# Altium schematic symbol library 2020-09-26_17-27-19.SchLib: 50 symbols
Pins are listed as number, name and electrical type; pins without a type are passive.

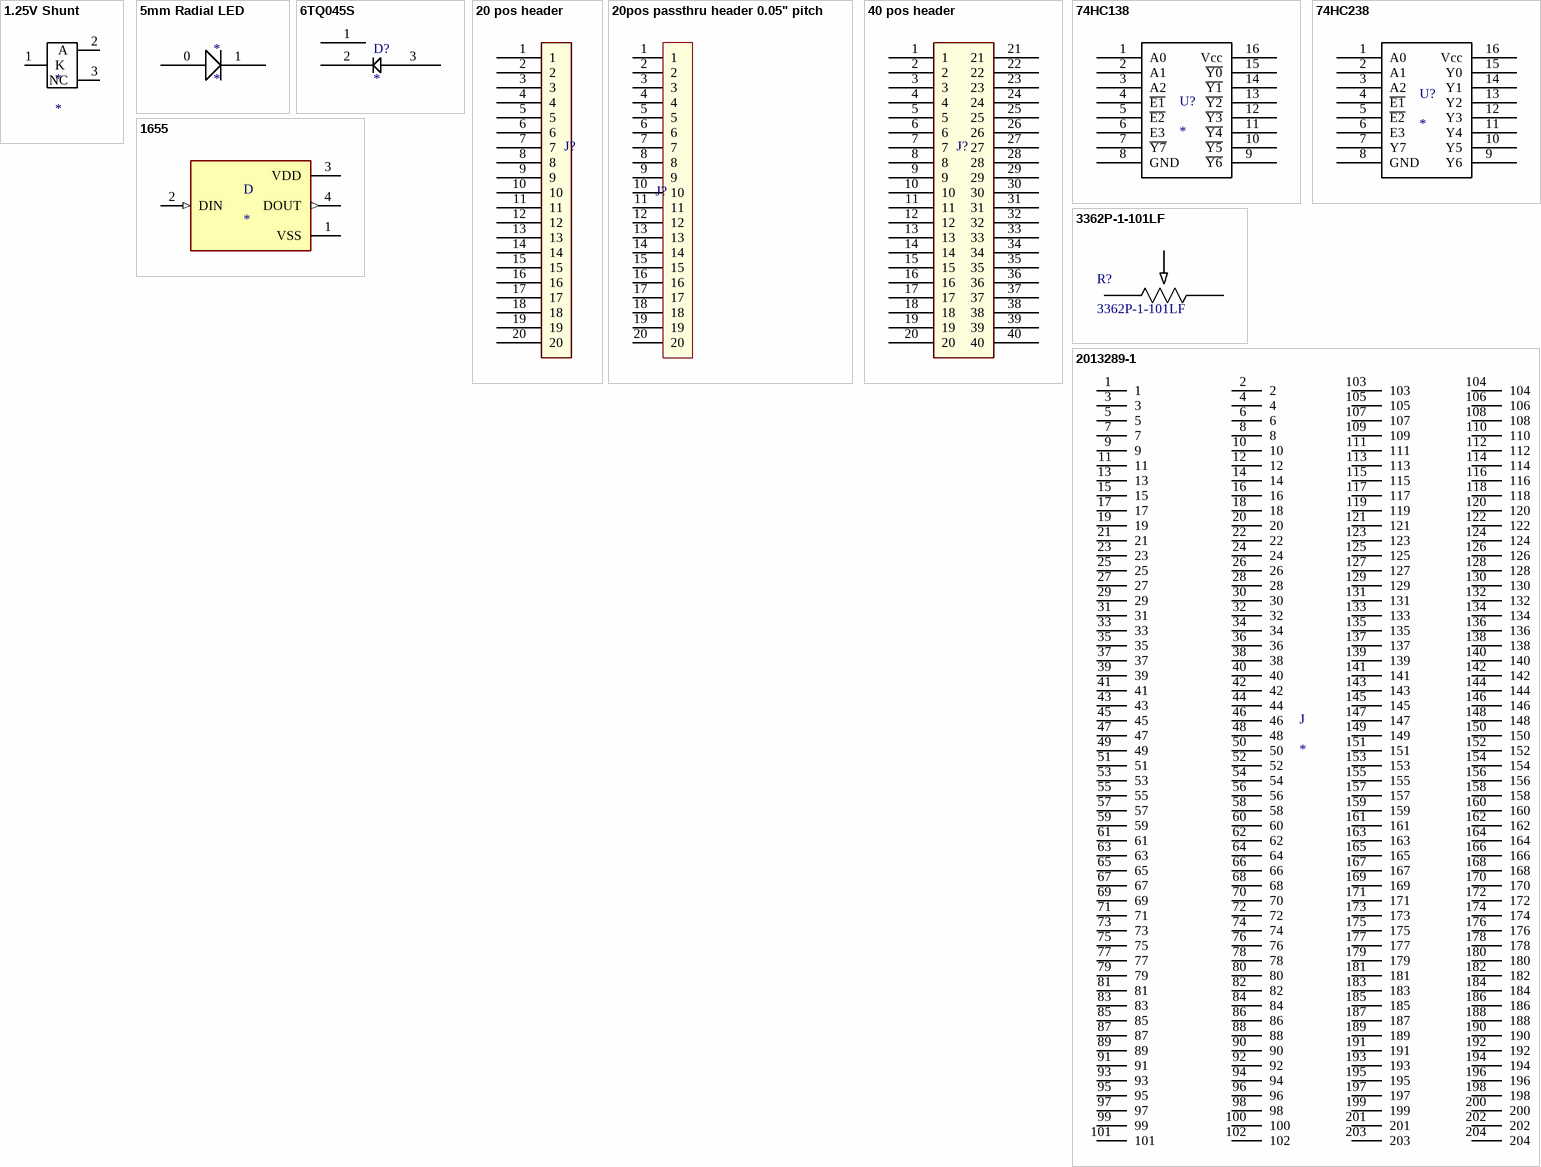
[diagram p0: symbols 1.25V Shunt to 2013289-1]

## 1.25V Shunt
designator *
TS4061AILT-1.25
footprint TS4061AILT-1.25 (SOT23, 3-Leads, Body 2.90x2.45mm, Pitch 0.95mm, IPC Medium Density)
pins: 1 K, 2 A, 3 NC

## 5mm Radial LED
designator *
footprint 5mm Radial LED
pins: 0, 1

## 6TQ045S
designator D?
footprint DPAK 6TQ045S (D2-PAK, 3-Pads, Body 7.93x8.70mm (max), IPC Medium Density)
pins: 1, 2, 3

## 20 pos header
designator J?
footprint 20 pos header (50mil pitch single row)
pins: 1, 2, 3, 4, 5, 6, 7, 8, 9, 10, 11, 12, 13, 14, 15, 16, 17, 18, 19, 20

## 20pos passthru header 0.05" pitch
designator J?
M50-3132045 /
footprint M50-3132045 (M50-3132045 20pos header passthru)
pins: 1, 2, 3, 4, 5, 6, 7, 8, 9, 10, 11, 12, 13, 14, 15, 16, 17, 18, 19, 20

## 40 pos header
designator J?
footprint 40 pos header
pins: 1, 2, 3, 4, 5, 6, 7, 8, 9, 10, 11, 12, 13, 14, 15, 16, 17, 18, 19, 20, 21, 22, 23, 24, 25, 26, 27, 28, 29, 30, 31, 32, 33, 34, 35, 36, 37, 38, 39, 40

## 74HC138
designator U?
footprint SOIC16
pins: 1 A0, 2 A1, 3 A2, 4 ~{E1}, 5 ~{E2}, 6 E3, 7 ~{Y7}, 8 GND, 9 ~{Y6}, 10 ~{Y5}, 11 ~{Y4}, 12 ~{Y3}, 13 ~{Y2}, 14 ~{Y1}, 15 ~{Y0}, 16 Vcc

## 74HC238
designator U?
footprint SOIC16
pins: 1 A0, 2 A1, 3 A2, 4 ~{E1}, 5 ~{E2}, 6 E3, 7 Y7, 8 GND, 9 Y6, 10 Y5, 11 Y4, 12 Y3, 13 Y2, 14 Y1, 15 Y0, 16 Vcc

## 1655
designator D
Addressable Lighting Neopixel 10 LED Discrete Serial _Shift Register_ Red, Green, Blue _RGB_ 5.00mm L x 5.00mm W; MF: Adafruit Industries; MP: 1655; Value: *; SnapEDA_Link: https://www.snapeda.com/parts/1655/Adafruit%20Industries%20LLC/view-part/53433/?ref=snap; Price: None; Availability: Unavailable; Package: TSOP-38238 Adafruit Industries
footprint LED_1655
pins: 1 VSS (power), 2 DIN (in), 3 VDD (power), 4 DOUT (out)

## 3362P-1-101LF
designator R?
No Description Available; Mfr_Name: Bourns Electronics; Copyright: Copyright (C) 2023 Ultra Librarian. All rights reserved.; Manufacturer_Part_Number: 3362P-1-101LF; Digi-Key_Part_Number_1: 3362P-101LF-ND; RefDes: RefDes; Type: DEV
footprint POT_3362P
pins: 1, 2, 3

## 2013289-1
designator J
204 Position 0.6 mm Pitch Right Angle Surface Mount Socket DIMM Connector; Number_of_Positions: 204; MP: 2013289-1; MF: TE Connectivity; Centerline_Pitch: .6 mm[.024 in]; Product_Type: Socket; Package: None; Digi-Key_Purchase_URL: https://www.digikey.com/product-detail/en/te-connectivity-amp-connectors/2013289-1/A115021-ND/2135546?utm_source=snapeda&utm_medium=aggregator&utm_campaign=symbol; Digi-Key_Part_Number: A115021-ND; SnapEDA_Link: https://www.snapeda.com/parts/2013289-1/TE%20Connectivity%20AMP%20Connectors/view-part/231016/?ref=snap; TE_purchase_URL: https://www.te.com/usa-en/product-2013289-1.html?te_bu=Cor&te_type=disp&te_campaign=seda_glo_cor-seda-global-disp-prtnr-fy19-seda-model-bom-cta_sma-317_1&elqCampaignId=32493; Value: *
footprint TE_2013289-1
footprint DDR3 SODIMM Gold Finger
pins: 1, 2, 3, 4, 5, 6, 7, 8, 9, 10, 11, 12, 13, 14, 15, 16, 17, 18, 19, 20, 21, 22, 23, 24, 25, 26, 27, 28, 29, 30, 31, 32, 33, 34, 35, 36, 37, 38, 39, 40, 41, 42, 43, 44, 45, 46, 47, 48, 49, 50, 51, 52, 53, 54, 55, 56, 57, 58, 59, 60, 61, 62, 63, 64, 65, 66, 67, 68, 69, 70, 71, 72, 73, 74, 75, 76, 77, 78, 79, 80, 81, 82, 83, 84, 85, 86, 87, 88, 89, 90, 91, 92, 93, 94, 95, 96, 97, 98, 99, 100, 101, 102, 103, 104, 105, 106, 107, 108, 109, 110, 111, 112, 113, 114, 115, 116, 117, 118, 119, 120, 121, 122, 123, 124, 125, 126, 127, 128, 129, 130, 131, 132, 133, 134, 135, 136, 137, 138, 139, 140, 141, 142, 143, 144, 145, 146, 147, 148, 149, 150, 151, 152, 153, 154, 155, 156, 157, 158, 159, 160, 161, 162, 163, 164, 165, 166, 167, 168, 169, 170, 171, 172, 173, 174, 175, 176, 177, 178, 179, 180, 181, 182, 183, 184, 185, 186, 187, 188, 189, 190, 191, 192, 193, 194, 195, 196, 197, 198, 199, 200, 201, 202, 203, 204

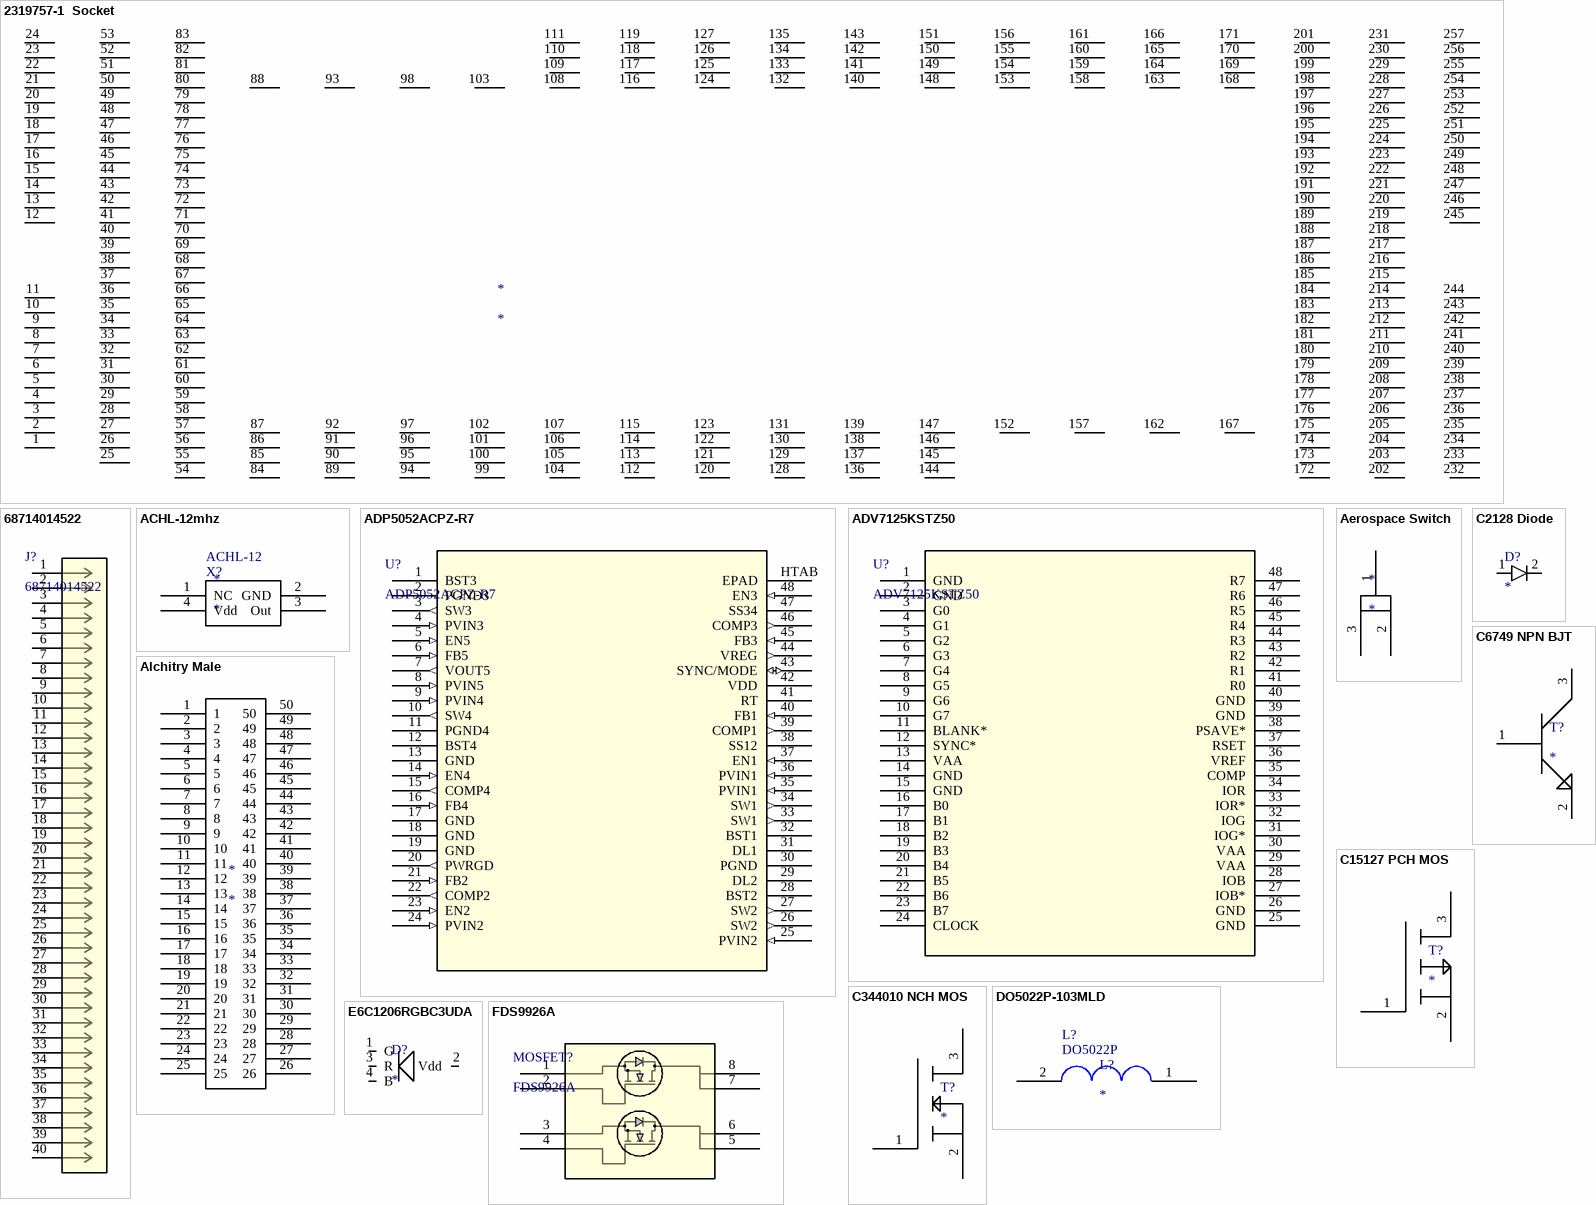
[diagram p1: symbols 2319757-1  Socket to FDS9926A]

## 2319757-1  Socket
designator *
footprint 2319757-1  LGA Socket
pins: 1, 2, 3, 4, 5, 6, 7, 8, 9, 10, 11, 12, 13, 14, 15, 16, 17, 18, 19, 20, 21, 22, 23, 24, 25, 26, 27, 28, 29, 30, 31, 32, 33, 34, 35, 36, 37, 38, 39, 40, 41, 42, 43, 44, 45, 46, 47, 48, 49, 50, 51, 52, 53, 54, 55, 56, 57, 58, 59, 60, 61, 62, 63, 64, 65, 66, 67, 68, 69, 70, 71, 72, 73, 74, 75, 76, 77, 78, 79, 80, 81, 82, 83, 84, 85, 86, 87, 88, 89, 90, 91, 92, 93, 94, 95, 96, 97, 98, 99, 100, 101, 102, 103, 104, 105, 106, 107, 108, 109, 110, 111, 112, 113, 114, 115, 116, 117, 118, 119, 120, 121, 122, 123, 124, 125, 126, 127, 128, 129, 130, 131, 132, 133, 134, 135, 136, 137, 138, 139, 140, 141, 142, 143, 144, 145, 146, 147, 148, 149, 150, 151, 152, 153, 154, 155, 156, 157, 158, 159, 160, 161, 162, 163, 164, 165, 166, 167, 168, 169, 170, 171, 172, 173, 174, 175, 176, 177, 178, 179, 180, 181, 182, 183, 184, 185, 186, 187, 188, 189, 190, 191, 192, 193, 194, 195, 196, 197, 198, 199, 200, 201, 202, 203, 204, 205, 206, 207, 208, 209, 210, 211, 212, 213, 214, 215, 216, 217, 218, 219, 220, 221, 222, 223, 224, 225, 226, 227, 228, 229, 230, 231, 232, 233, 234, 235, 236, 237, 238, 239, 240, 241, 242, 243, 244, 245, 246, 247, 248, 249, 250, 251, 252, 253, 254, 255, 256, 257

## 68714014522
designator J?
No Description Available; Built_By: EMA_Matt; Vendor: Wurth Electronics; SourceLibrary: Add_to_database_2020-11-03; Datasheet: https://www.we-online.de/katalog/datasheet/6871xx14522.pdf; Copyright: Copyright (C) 2018 Accelerated Designs. All rights reserved; Manufacturer_Part_Number: 68714014522; RefDes: RefDes; Type: DEV
footprint CONN40_014522_WRE
pins: 1, 2, 3, 4, 5, 6, 7, 8, 9, 10, 11, 12, 13, 14, 15, 16, 17, 18, 19, 20, 21, 22, 23, 24, 25, 26, 27, 28, 29, 30, 31, 32, 33, 34, 35, 36, 37, 38, 39, 40

## ACHL-12mhz
designator *
footprint ACHL-12mhz
pins: 1 NC, 2 GND, 3 Out, 4 Vdd
text: ACHL-12; X?

## ADP5052ACPZ-R7
designator U?
No Description Available; Mfr_Name: Analog Devices Inc; Copyright: Copyright (C) 2023 Ultra Librarian. All rights reserved.; Manufacturer_Part_Number: ADP5052ACPZ-R7; Digi-Key_Part_Number_1: ADP5052ACPZ-R7CT-ND; Digi-Key_Part_Number_2: ADP5052ACPZ-R7DKR-ND; Digi-Key_Part_Number_3: ADP5052ACPZ-R7TR-ND; RefDes: RefDes; Type: DEV
footprint CP_48_13_ADI
pins: 1 BST3, 2 PGND3 (power), 3 SW3 (out), 4 PVIN3 (in), 5 EN5 (in), 6 FB5 (in), 7 VOUT5 (out), 8 PVIN5 (in), 9 PVIN4 (in), 10 SW4 (out), 11 PGND4 (power), 12 BST4, 13 GND (power), 14 EN4 (in), 15 COMP4 (out), 16 FB4 (in), 17 GND (power), 18 GND (power), 19 GND (power), 20 PWRGD (out), 21 FB2 (in), 22 COMP2 (out), 23 EN2 (in), 24 PVIN2 (in), 25 PVIN2 (in), 26 SW2 (out), 27 SW2 (out), 28 BST2, 29 DL2, 30 PGND (power), 31 DL1, 32 BST1, 33 SW1 (out), 34 SW1 (out), 35 PVIN1 (in), 36 PVIN1 (in), 37 EN1 (in), 38 SS12, 39 COMP1 (out), 40 FB1 (in), 41 RT, 42 VDD (power), 43 SYNC/MODE (io), 44 VREG (out), 45 FB3 (in), 46 COMP3 (out), 47 SS34, 48 EN3 (in), HTAB EPAD

## ADV7125KSTZ50
designator U?
No Description Available; Vendor: Analog Devices Inc; Built_By: EMA_UL_Team; SourceLibrary: Analog_2012-01-01_8; Manufacturer_Part_Number: ADV7125KSTZ50; Copyright: Copyright (C) 2018 Accelerated Designs. All rights reserved; RefDes: RefDes; Type: DEV
footprint ST_48_ADI
pins: 1 GND, 2 GND, 3 G0, 4 G1, 5 G2, 6 G3, 7 G4, 8 G5, 9 G6, 10 G7, 11 BLANK*, 12 SYNC*, 13 VAA (power), 14 GND, 15 GND, 16 B0, 17 B1, 18 B2, 19 B3, 20 B4, 21 B5, 22 B6, 23 B7, 24 CLOCK, 25 GND, 26 GND, 27 IOB*, 28 IOB, 29 VAA (power), 30 VAA (power), 31 IOG*, 32 IOG, 33 IOR*, 34 IOR, 35 COMP, 36 VREF, 37 RSET, 38 PSAVE*, 39 GND, 40 GND, 41 R0, 42 R1, 43 R2, 44 R3, 45 R4, 46 R5, 47 R6, 48 R7

## Aerospace Switch
designator *
footprint Aerospace Switch
pins: 1, 2, 3

## Alchitry Male
designator *
footprint AlchitryMale
pins: 1, 2, 3, 4, 5, 6, 7, 8, 9, 10, 11, 12, 13, 14, 15, 16, 17, 18, 19, 20, 21, 22, 23, 24, 25, 26, 27, 28, 29, 30, 31, 32, 33, 34, 35, 36, 37, 38, 39, 40, 41, 42, 43, 44, 45, 46, 47, 48, 49, 50

## C2128 Diode
designator D?
footprint C2128 SOD323 (SODFL, 2-Leads, Body 1.30x2.50mm, IPC Medium Density)
pins: 1, 2

## C6749 NPN BJT
designator T?
footprint C6749 NPN BJT (SOT23, 3-Leads, Body 2.90x2.45mm, Pitch 0.95mm, IPC Medium Density)
pins: 1, 2, 3

## C15127 PCH MOS
designator T?
footprint C6749 NPN BJT (SOT23, 3-Leads, Body 2.90x2.45mm, Pitch 0.95mm, IPC Medium Density)
pins: 1, 2, 3

## C344010 NCH MOS
designator T?
footprint C6749 NPN BJT (SOT23, 3-Leads, Body 2.90x2.45mm, Pitch 0.95mm, IPC Medium Density)
pins: 1, 2, 3

## DO5022P-103MLD
designator L?
footprint DO5022P-103MLD (10uH)
pins: 1, 2
text: DO5022P

## E6C1206RGBC3UDA
designator D?
footprint E6C1206RGBC3UDA (RGB LED SMD)
pins: 1 G, 2 Vdd, 3 R, 4 B

## FDS9926A
designator MOSFET?
No Description Available; Mfr_Name: onsemi; Copyright: Copyright (C) 2023 Ultra Librarian. All rights reserved.; Manufacturer_Part_Number: FDS9926A; Digi-Key_Part_Number_1: FDS9926ATR-ND; Digi-Key_Part_Number_2: FDS9926ACT-ND; Digi-Key_Part_Number_3: FDS9926ADKR-ND; Digi-Key_Part_Number_4: 2156-FDS9926A-ND; RefDes: RefDes; Type: DEV
footprint SOIC8_751EB_ONS
pins: 1, 2, 3, 4, 5, 6, 7, 8

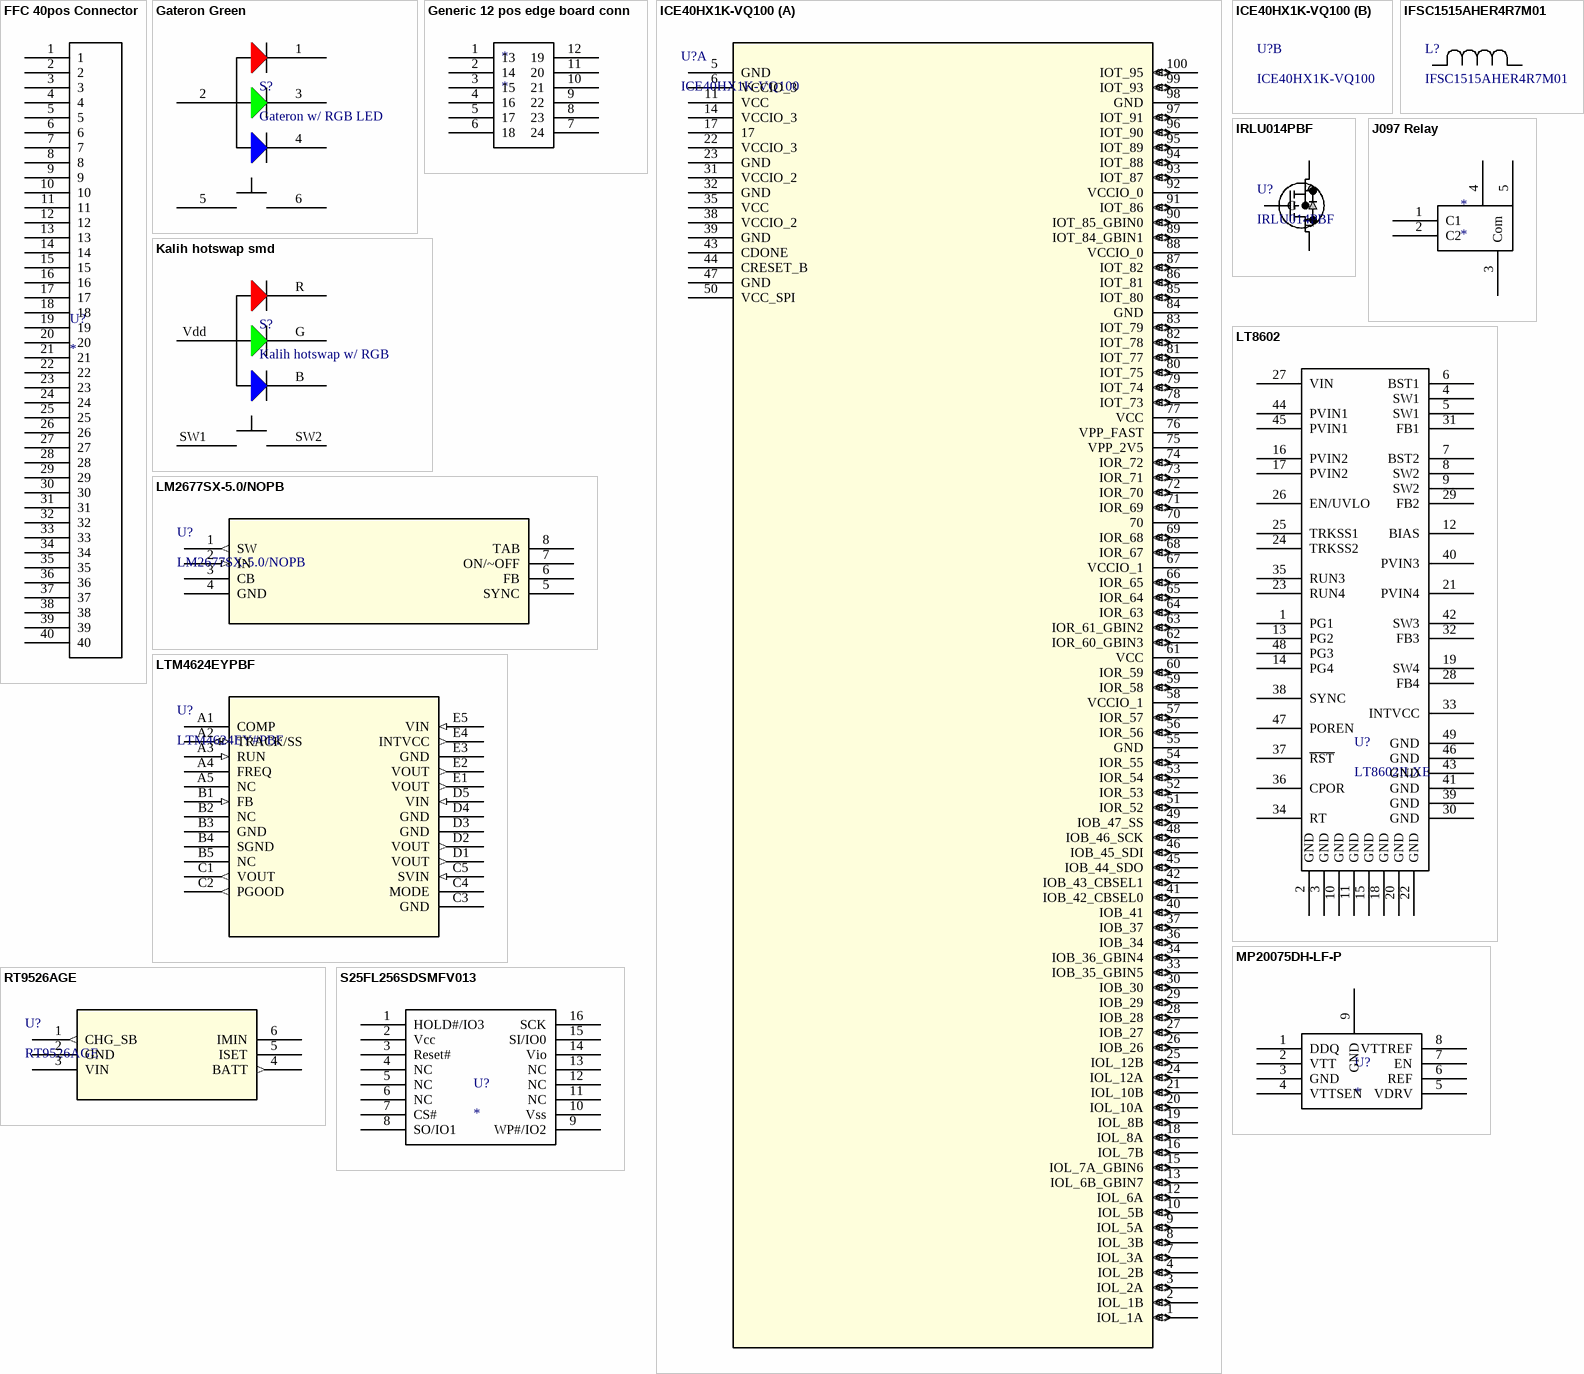
[diagram p2: symbols FFC 40pos Connector to S25FL256SDSMFV013]

## FFC 40pos Connector
designator U?
footprint F305-1A7H1-11040-E100 (40 pos FFC)
pins: 1, 2, 3, 4, 5, 6, 7, 8, 9, 10, 11, 12, 13, 14, 15, 16, 17, 18, 19, 20, 21, 22, 23, 24, 25, 26, 27, 28, 29, 30, 31, 32, 33, 34, 35, 36, 37, 38, 39, 40

## Gateron Green
designator S?, comment Gateron w/ RGB LED
footprint Gateron Green
footprint Gateron Green W/ Stabilizer horizontal (1x2 cherry screw in stabilizer)
footprint Gateron Green W/ Stabilizer vertical (1x2 cherry screw in stabilizer)
pins: 1 R, 2 COM, 3 G, 4 B, 5, 6

## Generic 12 pos edge board conn
designator *
footprint 12 Pos Generic
footprint 55650118-3 (12 pos right angle board connector)
pins: 1 13, 2 14, 3 15, 4 16, 5 17, 6 18, 7 24, 8 23, 9 22, 10 21, 11 20, 12 19

## ICE40HX1K-VQ100
designator U?
No Description Available; Vendor: Lattice; Built_By: EMA_UL_Team; SourceLibrary: Lattice_2014-07-30; Manufacturer_Part_Number: ICE40HX1K-VQ100; Copyright: Copyright (C) 2018 Accelerated Designs. All rights reserved; RefDes: RefDes; Type: DEV
footprint ST_48_ADI-M
part A pins: 1 IOL_1A (io), 2 IOL_1B (io), 3 IOL_2A (io), 4 IOL_2B (io), 5 GND (power), 6 VCCIO_3 (power), 7 IOL_3A (io), 8 IOL_3B (io), 9 IOL_5A (io), 10 IOL_5B (io), 11 VCC (power), 12 IOL_6A (io), 13 IOL_6B_GBIN7 (io), 14 VCCIO_3 (power), 15 IOL_7A_GBIN6 (io), 16 IOL_7B (io), 17, 18 IOL_8A (io), 19 IOL_8B (io), 20 IOL_10A (io), 21 IOL_10B (io), 22 VCCIO_3 (power), 23 GND (power), 24 IOL_12A (io), 25 IOL_12B (io), 26 IOB_26 (io), 27 IOB_27 (io), 28 IOB_28 (io), 29 IOB_29 (io), 30 IOB_30 (io), 31 VCCIO_2 (power), 32 GND (power), 33 IOB_35_GBIN5 (io), 34 IOB_36_GBIN4 (io), 35 VCC (power), 36 IOB_34 (io), 37 IOB_37 (io), 38 VCCIO_2 (power), 39 GND (power), 40 IOB_41 (io), 41 IOB_42_CBSEL0 (io), 42 IOB_43_CBSEL1 (io), 43 CDONE, 44 CRESET_B, 45 IOB_44_SDO (io), 46 IOB_45_SDI (io), 47 GND (power), 48 IOB_46_SCK (io), 49 IOB_47_SS (io), 50 VCC_SPI (power), 51 IOR_52 (io), 52 IOR_53 (io), 53 IOR_54 (io), 54 IOR_55 (io), 55 GND (power), 56 IOR_56 (io), 57 IOR_57 (io), 58 VCCIO_1 (power), 59 IOR_58 (io), 60 IOR_59 (io), 61 VCC (power), 62 IOR_60_GBIN3 (io), 63 IOR_61_GBIN2 (io), 64 IOR_63 (io), 65 IOR_64 (io), 66 IOR_65 (io), 67 VCCIO_1 (power), 68 IOR_67 (io), 69 IOR_68 (io), 70, 71 IOR_69 (io), 72 IOR_70 (io), 73 IOR_71 (io), 74 IOR_72 (io), 75 VPP_2V5 (power), 76 VPP_FAST (power), 77 VCC (power), 78 IOT_73 (io), 79 IOT_74 (io), 80 IOT_75 (io), 81 IOT_77 (io), 82 IOT_78 (io), 83 IOT_79 (io), 84 GND (power), 85 IOT_80 (io), 86 IOT_81 (io), 87 IOT_82 (io), 88 VCCIO_0 (power), 89 IOT_84_GBIN1 (io), 90 IOT_85_GBIN0 (io), 91 IOT_86 (io), 92 VCCIO_0 (power), 93 IOT_87 (io), 94 IOT_88 (io), 95 IOT_89 (io), 96 IOT_90 (io), 97 IOT_91 (io), 98 GND (power), 99 IOT_93 (io), 100 IOT_95 (io)

## IFSC1515AHER4R7M01
designator L?
No Description Available; Mfr_Name: Vishay; Type: DEV; Copyright: Copyright (C) 2023 Ultra Librarian. All rights reserved.; Manufacturer_Part_Number: IFSC1515AHER4R7M01; Digi-Key_Part_Number_1: 541-1405-1-ND; Digi-Key_Part_Number_2: 541-1405-2-ND; Digi-Key_Part_Number_3: 541-1405-6-ND; RefDes: RefDes
footprint IND_IFSC_1515AH_VIS
pins: 1, 2

## IRLU014PBF
designator U?
No Description Available; Vendor: Vishay; Built_By: EMA_UL_Team; SourceLibrary: Vishay_2020-02-10; Manufacturer_Part_Number: IRLU014PBF; Copyright: Copyright (C) 2018 Accelerated Designs. All rights reserved; RefDes: RefDes; Type: DEV
footprint IPAK-S_VIS
pins: 1 G, 2 D, 3 S

## J097 Relay
designator *
footprint J097 Relay Footprint
pins: 1 C1, 2 C2, 3 Com, 4, 5

## Kalih hotswap smd
designator S?, comment Kalih hotswap w/ RGB
footprint Kalih Hotswap smd
footprint Kalih hotswap smd stabilizer H (1x2 cherry screw in stabilizer)
footprint Kalih hotswap smd stabilizer V (1x2 cherry screw in stabilizer)
pins: B, G, R, SW1 5, SW2 6, Vdd COM

## LM2677SX-5.0/NOPB
designator U?
No Description Available; Mfr_Name: Texas Instruments; Type: DEV; Copyright: Copyright (C) 2022 Ultra Librarian. All rights reserved.; Manufacturer_Part_Number: LM2677SX-5.0/NOPB; Digi-Key_Part_Number_1: 2156-LM2677SX-5.0/NOPB-ND; Digi-Key_Part_Number_2: 296-48568-1-ND; Digi-Key_Part_Number_3: 296-48568-2-ND; Digi-Key_Part_Number_4: 296-48568-6-ND; Digi-Key_Part_Number_5: LM2677SX-5.0/NOPB-ND; RefDes: RefDes
footprint TS7B
pins: 1 SW (out), 2 IN (in), 3 CB, 4 GND, 5 SYNC, 6 FB, 7 ON/~OFF, 8 TAB

## LT8602
designator U?, comment LT8602ILXE
footprint Quad48
pins: 1 PG1, 2 GND, 3 GND, 4 SW1, 5 SW1, 6 BST1, 7 BST2, 8 SW2, 9 SW2, 10 GND, 11 GND, 12 BIAS, 13 PG2, 14 PG4, 15 GND, 16 PVIN2, 17 PVIN2, 18 GND, 19 SW4, 20 GND, 21 PVIN4, 22 GND, 23 RUN4, 24 TRKSS2, 25 TRKSS1, 26 EN/UVLO, 27 VIN, 28 FB4, 29 FB2, 30 GND, 31 FB1, 32 FB3, 33 INTVCC, 34 RT, 35 RUN3, 36 CPOR, 37 ~{RST}, 38 SYNC, 39 GND, 40 PVIN3, 41 GND, 42 SW3, 43 GND, 44 PVIN1, 45 PVIN1, 46 GND, 47 POREN, 48 PG3, 49 GND

## LTM4624EYPBF
designator U?, comment LTM4624EY#PBF
No Description Available; Mfr_Name: Analog Devices Inc; Copyright: Copyright (C) 2023 Ultra Librarian. All rights reserved.; Manufacturer_Part_Number: LTM4624EY#PBF; RefDes: RefDes; Type: DEV
footprint BGA-25_6P25X6P25_LIT
pins: A1 COMP, A2 TRACK/SS (io), A3 RUN (in), A4 FREQ, A5 NC, B1 FB (in), B2 NC, B3 GND (power), B4 SGND (power), B5 NC, C1 VOUT (out), C2 PGOOD (out), C3 GND (power), C4 MODE, C5 SVIN (in), D1 VOUT (out), D2 VOUT (out), D3 GND (power), D4 GND (power), D5 VIN (in), E1 VOUT (out), E2 VOUT (out), E3 GND (power), E4 INTVCC (out), E5 VIN (in)

## MP20075DH-LF-P
designator U?
footprint MP20075
pins: 1 DDQ, 2 VTT, 3 GND, 4 VTTSEN, 5 VDRV, 6 REF, 7 EN, 8 VTTREF, 9 GND

## RT9526AGE
designator U?
No Description Available; Mfr_Name: Richtek Technology; Copyright: Copyright (C) 2023 Ultra Librarian. All rights reserved.; Manufacturer_Part_Number: RT9526AGE; Digi-Key_Part_Number_1: 1028-1359-2-ND; Digi-Key_Part_Number_2: 1028-1359-1-ND; Digi-Key_Part_Number_3: 1028-1359-6-ND; RefDes: RefDes; Type: DEV
footprint SOT-23-6_RIT
pins: 1 CHG_SB (out), 2 GND, 3 VIN (power), 4 BATT (out), 5 ISET, 6 IMIN

## S25FL256SDSMFV013
designator U?
pins: 1 HOLD#/IO3, 2 Vcc, 3 Reset#, 4 NC, 5 NC, 6 NC, 7 CS#, 8 SO/IO1, 9 WP#/IO2, 10 Vss, 11 NC, 12 NC, 13 NC, 14 Vio, 15 SI/IO0, 16 SCK

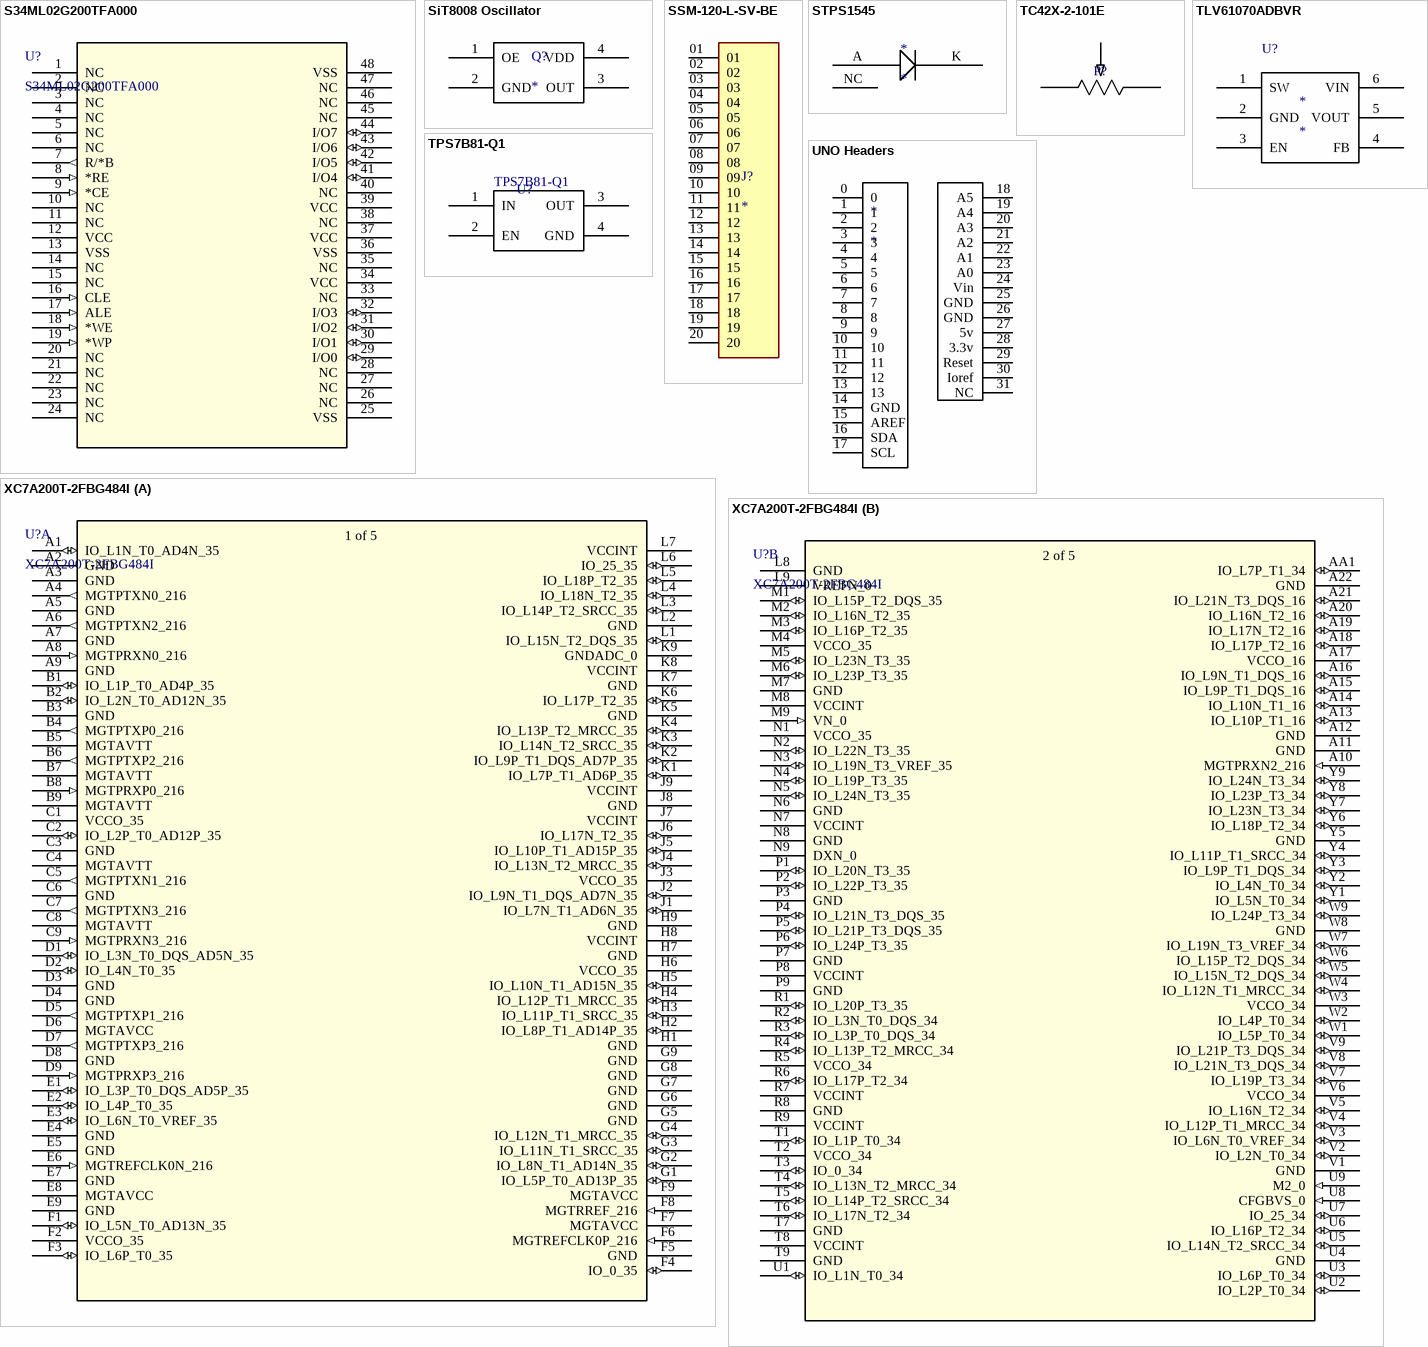
[diagram p3: symbols S34ML02G200TFA000 to XC7A200T-2FBG484I]

## S34ML02G200TFA000
designator U?
No Description Available; Mfr_Name: Cypress Semiconductor; Copyright: Copyright (C) 2021 Ultra Librarian. All rights reserved.; Manufacturer_Part_Number: S34ML02G200TFA000; Digi-Key_Part_Number_1: 428-4274-ND; Digi-Key_Part_Number_2: 2120-S34MS01G200TFI000-ND; Digi-Key_Part_Number_3: 2832-S34MS01G200TFI000-ND; RefDes: RefDes; Type: DEV
footprint TSOP-48_TSOP1_SPA
pins: 1 NC, 2 NC, 3 NC, 4 NC, 5 NC, 6 NC, 7 R/*B (out), 8 *RE (in), 9 *CE (in), 10 NC, 11 NC, 12 VCC (power), 13 VSS (power), 14 NC, 15 NC, 16 CLE (in), 17 ALE (in), 18 *WE (in), 19 *WP (in), 20 NC, 21 NC, 22 NC, 23 NC, 24 NC, 25 VSS, 26 NC, 27 NC, 28 NC, 29 I/O0 (io), 30 I/O1 (io), 31 I/O2 (io), 32 I/O3 (io), 33 NC, 34 VCC, 35 NC, 36 VSS (power), 37 VCC (power), 38 NC, 39 VCC, 40 NC, 41 I/O4 (io), 42 I/O5 (io), 43 I/O6 (io), 44 I/O7 (io), 45 NC, 46 NC, 47 NC, 48 VSS

## SiT8008 Oscillator
designator Q?
footprint SiT8008 2.5x2
pins: 1 OE, 2 GND, 3 OUT, 4 VDD

## SSM-120-L-SV-BE
designator J?
20 Position Receptacle, Bottom Entry Connector 0.100 (2.54mm) Surface Mount Gold; MP: SSM-120-L-SV-BE; MF: Samtec; Value: *; Purchase-URL: https://pricing.snapeda.com/search/part/SSM-120-L-SV-BE/?ref=eda; Check_prices: https://www.snapeda.com/parts/SSM-120-L-SV-BE/Samtec/view-part/2796009/?ref=eda; Package: None; Digi-Key_Part_Number: 612-SSM-120-L-SV-BE-K-TR-ND; SnapEDA_Link: https://www.snapeda.com/parts/SSM-120-L-SV-BE/Samtec/view-part/2796009/?ref=snap
footprint SAMTEC_SSM-120-L-SV-BE
pins: 01, 02, 03, 04, 05, 06, 07, 08, 09, 10, 11, 12, 13, 14, 15, 16, 17, 18, 19, 20

## STPS1545
designator *
footprint DPAK254P1435X460-3N (D2-PAK, 3-Pads, Body 7.78x8.64mm (max), IPC Medium Density)
pins: A, K, NC

## TC42X-2-101E
designator P?
low profile pot
footprint TC42X-2-101E (Potentiometer low profile)
pins: 1, 2, 3

## TLV61070ADBVR
designator *
footprint SOT95P280X145-6N (SOT23, 6-Leads, Body 2.90x2.80mm, Pitch 0.95mm, IPC Medium Density)
pins: 1 SW, 2 GND, 3 EN, 4 FB, 5 VOUT, 6 VIN
text: U?

## TPS7B81-Q1
designator U?
pins: 1 IN, 2 EN, 3 OUT, 4 GND

## UNO Headers
designator *
footprint UNO Headers
pins: 0, 1, 2, 3, 4, 5, 6, 7, 8, 9, 10, 11, 12, 13, 14 GND, 15 AREF, 16 SDA, 17 SCL, 18 A5, 19 A4, 20 A3, 21 A2, 22 A1, 23 A0, 24 Vin, 25 GND, 26 GND, 27 5v, 28 3.3v, 29 Reset, 30 Ioref, 31 NC

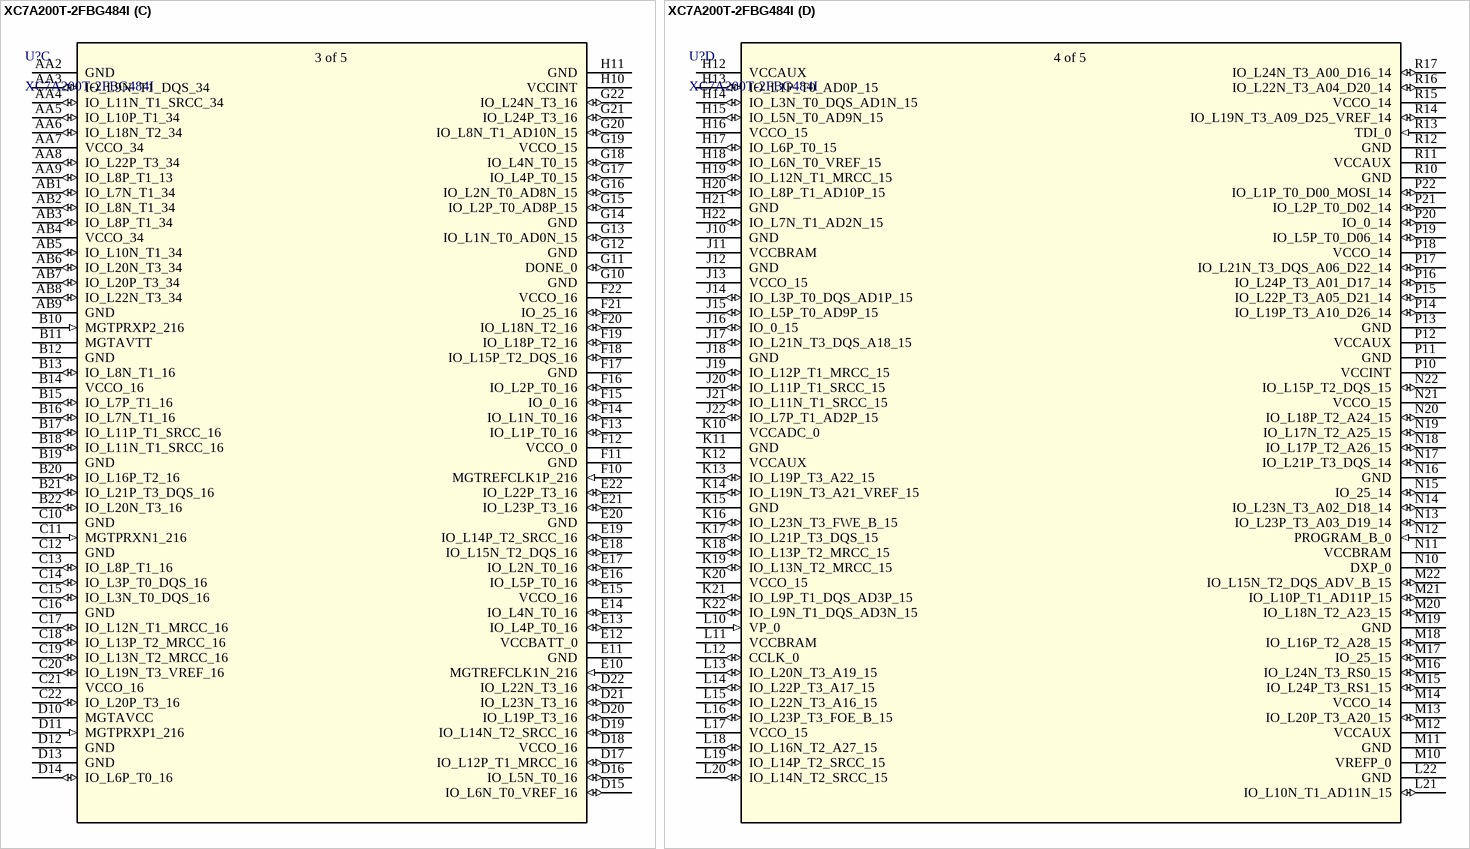
[diagram p4: symbol XC7A200T-2FBG484I]

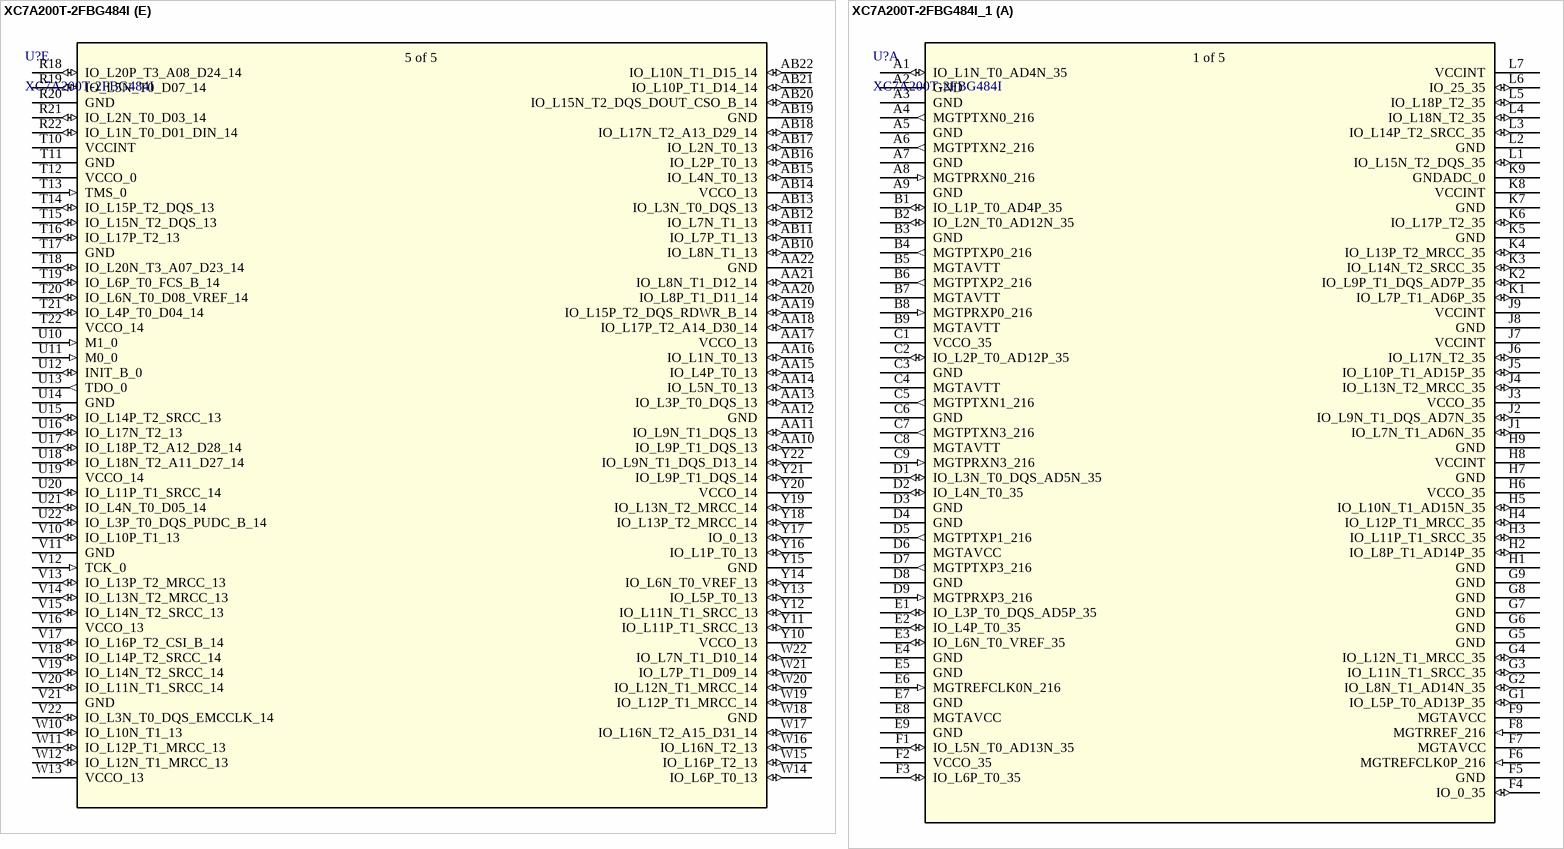
[diagram p5: symbols XC7A200T-2FBG484I to XC7A200T-2FBG484I_1]

## XC7A200T-2FBG484I
designator U?
No Description Available; Vendor: Xilinx Inc; Built_By: EMA_Cory; SourceLibrary: Xilinx_2020-08-04; Datasheet: https://www.xilinx.com/support/documentation/user_guides/ug475_7Series_Pkg_Pinout.pdf; Manufacturer_Part_Number: XC7A200T-2FBG484I; Copyright: Copyright (C) 2018 Accelerated Designs. All rights reserved; RefDes: RefDes; Type: DEV
footprint FBG484_XIL
part A pins: A1 IO_L1N_T0_AD4N_35 (io), A2 GND, A3 GND, A4 MGTPTXN0_216 (out), A5 GND, A6 MGTPTXN2_216 (out), A7 GND, A8 MGTPRXN0_216 (in), A9 GND, B1 IO_L1P_T0_AD4P_35 (io), B2 IO_L2N_T0_AD12N_35 (io), B3 GND, B4 MGTPTXP0_216 (out), B5 MGTAVTT, B6 MGTPTXP2_216 (out), B7 MGTAVTT (power), B8 MGTPRXP0_216 (in), B9 MGTAVTT (power), C1 VCCO_35 (power), C2 IO_L2P_T0_AD12P_35 (io), C3 GND, C4 MGTAVTT (power), C5 MGTPTXN1_216 (out), C6 GND, C7 MGTPTXN3_216 (out), C8 MGTAVTT (power), C9 MGTPRXN3_216 (in), D1 IO_L3N_T0_DQS_AD5N_35 (io), D2 IO_L4N_T0_35 (io), D3 GND, D4 GND, D5 MGTPTXP1_216 (out), D6 MGTAVCC (power), D7 MGTPTXP3_216 (out), D8 GND, D9 MGTPRXP3_216 (in), E1 IO_L3P_T0_DQS_AD5P_35 (io), E2 IO_L4P_T0_35 (io), E3 IO_L6N_T0_VREF_35 (io), E4 GND, E5 GND, E6 MGTREFCLK0N_216 (in), E7 GND, E8 MGTAVCC (power), E9 GND, F1 IO_L5N_T0_AD13N_35 (io), F2 VCCO_35 (power), F3 IO_L6P_T0_35 (io), F4 IO_0_35 (io), F5 GND, F6 MGTREFCLK0P_216 (in), F7 MGTAVCC (power), F8 MGTRREF_216 (in), F9 MGTAVCC (power), G1 IO_L5P_T0_AD13P_35 (io), G2 IO_L8N_T1_AD14N_35 (io), G3 IO_L11N_T1_SRCC_35 (io), G4 IO_L12N_T1_MRCC_35 (io), G5 GND, G6 GND, G7 GND, G8 GND, G9 GND, H1 GND, H2 IO_L8P_T1_AD14P_35 (io), H3 IO_L11P_T1_SRCC_35 (io), H4 IO_L12P_T1_MRCC_35 (io), H5 IO_L10N_T1_AD15N_35 (io), H6 VCCO_35 (power), H7 GND, H8 VCCINT (power), H9 GND, J1 IO_L7N_T1_AD6N_35 (io), J2 IO_L9N_T1_DQS_AD7N_35 (io), J3 VCCO_35 (power), J4 IO_L13N_T2_MRCC_35 (io), J5 IO_L10P_T1_AD15P_35 (io), J6 IO_L17N_T2_35 (io), J7 VCCINT (power), J8 GND, J9 VCCINT (power), K1 IO_L7P_T1_AD6P_35 (io), K2 IO_L9P_T1_DQS_AD7P_35 (io), K3 IO_L14N_T2_SRCC_35 (io), K4 IO_L13P_T2_MRCC_35 (io), K5 GND, K6 IO_L17P_T2_35 (io), K7 GND, K8 VCCINT (power), K9 GNDADC_0, L1 IO_L15N_T2_DQS_35 (io), L2 GND, L3 IO_L14P_T2_SRCC_35 (io), L4 IO_L18N_T2_35 (io), L5 IO_L18P_T2_35 (io), L6 IO_25_35 (io), L7 VCCINT (power)
part B pins: A10 MGTPRXN2_216 (in), A11 GND, A12 GND, A13 IO_L10P_T1_16 (io), A14 IO_L10N_T1_16 (io), A15 IO_L9P_T1_DQS_16 (io), A16 IO_L9N_T1_DQS_16 (io), A17 VCCO_16 (power), A18 IO_L17P_T2_16 (io), A19 IO_L17N_T2_16 (io), A20 IO_L16N_T2_16 (io), A21 IO_L21N_T3_DQS_16 (io), A22 GND, AA1 IO_L7P_T1_34 (io), L8 GND, L9 VREFN_0 (power), M1 IO_L15P_T2_DQS_35 (io), M2 IO_L16N_T2_35 (io), M3 IO_L16P_T2_35 (io), M4 VCCO_35 (power), M5 IO_L23N_T3_35 (io), M6 IO_L23P_T3_35 (io), M7 GND, M8 VCCINT (power), M9 VN_0 (in), N1 VCCO_35 (power), N2 IO_L22N_T3_35 (io), N3 IO_L19N_T3_VREF_35 (io), N4 IO_L19P_T3_35 (io), N5 IO_L24N_T3_35 (io), N6 GND, N7 VCCINT (power), N8 GND, N9 DXN_0, P1 IO_L20N_T3_35 (io), P2 IO_L22P_T3_35 (io), P3 GND, P4 IO_L21N_T3_DQS_35 (io), P5 IO_L21P_T3_DQS_35 (io), P6 IO_L24P_T3_35 (io), P7 GND, P8 VCCINT (power), P9 GND, R1 IO_L20P_T3_35 (io), R2 IO_L3N_T0_DQS_34 (io), R3 IO_L3P_T0_DQS_34 (io), R4 IO_L13P_T2_MRCC_34 (io), R5 VCCO_34 (power), R6 IO_L17P_T2_34 (io), R7 VCCINT (power), R8 GND, R9 VCCINT (power), T1 IO_L1P_T0_34 (io), T2 VCCO_34 (power), T3 IO_0_34 (io), T4 IO_L13N_T2_MRCC_34 (io), T5 IO_L14P_T2_SRCC_34 (io), T6 IO_L17N_T2_34 (io), T7 GND, T8 VCCINT (power), T9 GND, U1 IO_L1N_T0_34 (io), U2 IO_L2P_T0_34 (io), U3 IO_L6P_T0_34 (io), U4 GND, U5 IO_L14N_T2_SRCC_34 (io), U6 IO_L16P_T2_34 (io), U7 IO_25_34 (io), U8 CFGBVS_0 (in), U9 M2_0 (in), V1 GND, V2 IO_L2N_T0_34 (io), V3 IO_L6N_T0_VREF_34 (io), V4 IO_L12P_T1_MRCC_34 (io), V5 IO_L16N_T2_34 (io), V6 VCCO_34 (power), V7 IO_L19P_T3_34 (io), V8 IO_L21N_T3_DQS_34 (io), V9 IO_L21P_T3_DQS_34 (io), W1 IO_L5P_T0_34 (io), W2 IO_L4P_T0_34 (io), W3 VCCO_34 (power), W4 IO_L12N_T1_MRCC_34 (io), W5 IO_L15N_T2_DQS_34 (io), W6 IO_L15P_T2_DQS_34 (io), W7 IO_L19N_T3_VREF_34 (io), W8 GND, W9 IO_L24P_T3_34 (io), Y1 IO_L5N_T0_34 (io), Y2 IO_L4N_T0_34 (io), Y3 IO_L9P_T1_DQS_34 (io), Y4 IO_L11P_T1_SRCC_34 (io), Y5 GND, Y6 IO_L18P_T2_34 (io), Y7 IO_L23N_T3_34 (io), Y8 IO_L23P_T3_34 (io), Y9 IO_L24N_T3_34 (io)
part C pins: AA2 GND, AA3 IO_L9N_T1_DQS_34 (io), AA4 IO_L11N_T1_SRCC_34 (io), AA5 IO_L10P_T1_34 (io), AA6 IO_L18N_T2_34 (io), AA7 VCCO_34 (power), AA8 IO_L22P_T3_34 (io), AA9 IO_L8P_T1_13 (io), AB1 IO_L7N_T1_34 (io), AB2 IO_L8N_T1_34 (io), AB3 IO_L8P_T1_34 (io), AB4 VCCO_34 (power), AB5 IO_L10N_T1_34 (io), AB6 IO_L20N_T3_34 (io), AB7 IO_L20P_T3_34 (io), AB8 IO_L22N_T3_34 (io), AB9 GND, B10 MGTPRXP2_216 (in), B11 MGTAVTT (power), B12 GND, B13 IO_L8N_T1_16 (io), B14 VCCO_16 (power), B15 IO_L7P_T1_16 (io), B16 IO_L7N_T1_16 (io), B17 IO_L11P_T1_SRCC_16 (io), B18 IO_L11N_T1_SRCC_16 (io), B19 GND, B20 IO_L16P_T2_16 (io), B21 IO_L21P_T3_DQS_16 (io), B22 IO_L20N_T3_16 (io), C10 GND, C11 MGTPRXN1_216 (in), C12 GND, C13 IO_L8P_T1_16 (io), C14 IO_L3P_T0_DQS_16 (io), C15 IO_L3N_T0_DQS_16 (io), C16 GND, C17 IO_L12N_T1_MRCC_16 (io), C18 IO_L13P_T2_MRCC_16 (io), C19 IO_L13N_T2_MRCC_16 (io), C20 IO_L19N_T3_VREF_16 (io), C21 VCCO_16 (power), C22 IO_L20P_T3_16 (io), D10 MGTAVCC (power), D11 MGTPRXP1_216 (in), D12 GND, D13 GND, D14 IO_L6P_T0_16 (io), D15 IO_L6N_T0_VREF_16 (io), D16 IO_L5N_T0_16 (io), D17 IO_L12P_T1_MRCC_16 (io), D18 VCCO_16 (power), D19 IO_L14N_T2_SRCC_16 (io), D20 IO_L19P_T3_16 (io), D21 IO_L23N_T3_16 (io), D22 IO_L22N_T3_16 (io), E10 MGTREFCLK1N_216 (in), E11 GND, E12 VCCBATT_0 (power), E13 IO_L4P_T0_16 (io), E14 IO_L4N_T0_16 (io), E15 VCCO_16 (power), E16 IO_L5P_T0_16 (io), E17 IO_L2N_T0_16 (io), E18 IO_L15N_T2_DQS_16 (io), E19 IO_L14P_T2_SRCC_16 (io), E20 GND, E21 IO_L23P_T3_16 (io), E22 IO_L22P_T3_16 (io), F10 MGTREFCLK1P_216 (in), F11 GND, F12 VCCO_0 (power), F13 IO_L1P_T0_16 (io), F14 IO_L1N_T0_16 (io), F15 IO_0_16 (io), F16 IO_L2P_T0_16 (io), F17 GND, F18 IO_L15P_T2_DQS_16 (io), F19 IO_L18P_T2_16 (io), F20 IO_L18N_T2_16 (io), F21 IO_25_16 (io), F22 VCCO_16 (power), G10 GND, G11 DONE_0 (io), G12 GND, G13 IO_L1N_T0_AD0N_15 (io), G14 GND, G15 IO_L2P_T0_AD8P_15 (io), G16 IO_L2N_T0_AD8N_15 (io), G17 IO_L4P_T0_15 (io), G18 IO_L4N_T0_15 (io), G19 VCCO_15 (power), G20 IO_L8N_T1_AD10N_15 (io), G21 IO_L24P_T3_16 (io), G22 IO_L24N_T3_16 (io), H10 VCCINT (power), H11 GND
part D pins: H12 VCCAUX (power), H13 IO_L1P_T0_AD0P_15 (io), H14 IO_L3N_T0_DQS_AD1N_15 (io), H15 IO_L5N_T0_AD9N_15 (io), H16 VCCO_15 (power), H17 IO_L6P_T0_15 (io), H18 IO_L6N_T0_VREF_15 (io), H19 IO_L12N_T1_MRCC_15 (io), H20 IO_L8P_T1_AD10P_15 (io), H21 GND, H22 IO_L7N_T1_AD2N_15 (io), J10 GND, J11 VCCBRAM (power), J12 GND, J13 VCCO_15 (power), J14 IO_L3P_T0_DQS_AD1P_15 (io), J15 IO_L5P_T0_AD9P_15 (io), J16 IO_0_15 (io), J17 IO_L21N_T3_DQS_A18_15 (io), J18 GND, J19 IO_L12P_T1_MRCC_15 (io), J20 IO_L11P_T1_SRCC_15 (io), J21 IO_L11N_T1_SRCC_15 (io), J22 IO_L7P_T1_AD2P_15 (io), K10 VCCADC_0 (power), K11 GND, K12 VCCAUX (power), K13 IO_L19P_T3_A22_15 (io), K14 IO_L19N_T3_A21_VREF_15 (io), K15 GND, K16 IO_L23N_T3_FWE_B_15 (io), K17 IO_L21P_T3_DQS_15 (io), K18 IO_L13P_T2_MRCC_15 (io), K19 IO_L13N_T2_MRCC_15 (io), K20 VCCO_15 (power), K21 IO_L9P_T1_DQS_AD3P_15 (io), K22 IO_L9N_T1_DQS_AD3N_15 (io), L10 VP_0 (in), L11 VCCBRAM (power), L12 CCLK_0 (io), L13 IO_L20N_T3_A19_15 (io), L14 IO_L22P_T3_A17_15 (io), L15 IO_L22N_T3_A16_15 (io), L16 IO_L23P_T3_FOE_B_15 (io), L17 VCCO_15 (power), L18 IO_L16N_T2_A27_15 (io), L19 IO_L14P_T2_SRCC_15 (io), L20 IO_L14N_T2_SRCC_15 (io), L21 IO_L10N_T1_AD11N_15 (io), L22 GND, M10 VREFP_0 (power), M11 GND, M12 VCCAUX (power), M13 IO_L20P_T3_A20_15 (io), M14 VCCO_14 (power), M15 IO_L24P_T3_RS1_15 (io), M16 IO_L24N_T3_RS0_15 (io), M17 IO_25_15 (io), M18 IO_L16P_T2_A28_15 (io), M19 GND, M20 IO_L18N_T2_A23_15 (io), M21 IO_L10P_T1_AD11P_15 (io), M22 IO_L15N_T2_DQS_ADV_B_15 (io), N10 DXP_0, N11 VCCBRAM (power), N12 PROGRAM_B_0 (in), N13 IO_L23P_T3_A03_D19_14 (io), N14 IO_L23N_T3_A02_D18_14 (io), N15 IO_25_14 (io), N16 GND, N17 IO_L21P_T3_DQS_14 (io), N18 IO_L17P_T2_A26_15 (io), N19 IO_L17N_T2_A25_15 (io), N20 IO_L18P_T2_A24_15 (io), N21 VCCO_15 (power), N22 IO_L15P_T2_DQS_15 (io), P10 VCCINT (power), P11 GND, P12 VCCAUX (power), P13 GND, P14 IO_L19P_T3_A10_D26_14 (io), P15 IO_L22P_T3_A05_D21_14 (io), P16 IO_L24P_T3_A01_D17_14 (io), P17 IO_L21N_T3_DQS_A06_D22_14 (io), P18 VCCO_14 (power), P19 IO_L5P_T0_D06_14 (io), P20 IO_0_14 (io), P21 IO_L2P_T0_D02_14 (io), P22 IO_L1P_T0_D00_MOSI_14 (io), R10 GND, R11 VCCAUX (power), R12 GND, R13 TDI_0 (in), R14 IO_L19N_T3_A09_D25_VREF_14 (io), R15 VCCO_14 (power), R16 IO_L22N_T3_A04_D20_14 (io), R17 IO_L24N_T3_A00_D16_14 (io)
part E pins: AA10 IO_L9P_T1_DQS_13 (io), AA11 IO_L9N_T1_DQS_13 (io), AA12 GND, AA13 IO_L3P_T0_DQS_13 (io), AA14 IO_L5N_T0_13 (io), AA15 IO_L4P_T0_13 (io), AA16 IO_L1N_T0_13 (io), AA17 VCCO_13 (power), AA18 IO_L17P_T2_A14_D30_14 (io), AA19 IO_L15P_T2_DQS_RDWR_B_14 (io), AA20 IO_L8P_T1_D11_14 (io), AA21 IO_L8N_T1_D12_14 (io), AA22 GND, AB10 IO_L8N_T1_13 (io), AB11 IO_L7P_T1_13 (io), AB12 IO_L7N_T1_13 (io), AB13 IO_L3N_T0_DQS_13 (io), AB14 VCCO_13 (power), AB15 IO_L4N_T0_13 (io), AB16 IO_L2P_T0_13 (io), AB17 IO_L2N_T0_13 (io), AB18 IO_L17N_T2_A13_D29_14 (io), AB19 GND, AB20 IO_L15N_T2_DQS_DOUT_CSO_B_14 (io), AB21 IO_L10P_T1_D14_14 (io), AB22 IO_L10N_T1_D15_14 (io), R18 IO_L20P_T3_A08_D24_14 (io), R19 IO_L5N_T0_D07_14 (io), R20 GND, R21 IO_L2N_T0_D03_14 (io), R22 IO_L1N_T0_D01_DIN_14 (io), T10 VCCINT (power), T11 GND, T12 VCCO_0 (power), T13 TMS_0 (in), T14 IO_L15P_T2_DQS_13 (io), T15 IO_L15N_T2_DQS_13 (io), T16 IO_L17P_T2_13 (io), T17 GND, T18 IO_L20N_T3_A07_D23_14 (io), T19 IO_L6P_T0_FCS_B_14 (io), T20 IO_L6N_T0_D08_VREF_14 (io), T21 IO_L4P_T0_D04_14 (io), T22 VCCO_14 (power), U10 M1_0 (in), U11 M0_0 (in), U12 INIT_B_0 (io), U13 TDO_0 (out), U14 GND, U15 IO_L14P_T2_SRCC_13 (io), U16 IO_L17N_T2_13 (io), U17 IO_L18P_T2_A12_D28_14 (io), U18 IO_L18N_T2_A11_D27_14 (io), U19 VCCO_14 (power), U20 IO_L11P_T1_SRCC_14 (io), U21 IO_L4N_T0_D05_14 (io), U22 IO_L3P_T0_DQS_PUDC_B_14 (io), V10 IO_L10P_T1_13 (io), V11 GND, V12 TCK_0 (in), V13 IO_L13P_T2_MRCC_13 (io), V14 IO_L13N_T2_MRCC_13 (io), V15 IO_L14N_T2_SRCC_13 (io), V16 VCCO_13 (power), V17 IO_L16P_T2_CSI_B_14 (io), V18 IO_L14P_T2_SRCC_14 (io), V19 IO_L14N_T2_SRCC_14 (io), V20 IO_L11N_T1_SRCC_14 (io), V21 GND, V22 IO_L3N_T0_DQS_EMCCLK_14 (io), W10 IO_L10N_T1_13 (io), W11 IO_L12P_T1_MRCC_13 (io), W12 IO_L12N_T1_MRCC_13 (io), W13 VCCO_13 (power), W14 IO_L6P_T0_13 (io), W15 IO_L16P_T2_13 (io), W16 IO_L16N_T2_13 (io), W17 IO_L16N_T2_A15_D31_14 (io), W18 GND, W19 IO_L12P_T1_MRCC_14 (io), W20 IO_L12N_T1_MRCC_14 (io), W21 IO_L7P_T1_D09_14 (io), W22 IO_L7N_T1_D10_14 (io), Y10 VCCO_13 (power), Y11 IO_L11P_T1_SRCC_13 (io), Y12 IO_L11N_T1_SRCC_13 (io), Y13 IO_L5P_T0_13 (io), Y14 IO_L6N_T0_VREF_13 (io), Y15 GND, Y16 IO_L1P_T0_13 (io), Y17 IO_0_13 (io), Y18 IO_L13P_T2_MRCC_14 (io), Y19 IO_L13N_T2_MRCC_14 (io), Y20 VCCO_14 (power), Y21 IO_L9P_T1_DQS_14 (io), Y22 IO_L9N_T1_DQS_D13_14 (io)
part A text: 1 of 5
part B text: 2 of 5
part C text: 3 of 5
part D text: 4 of 5
part E text: 5 of 5

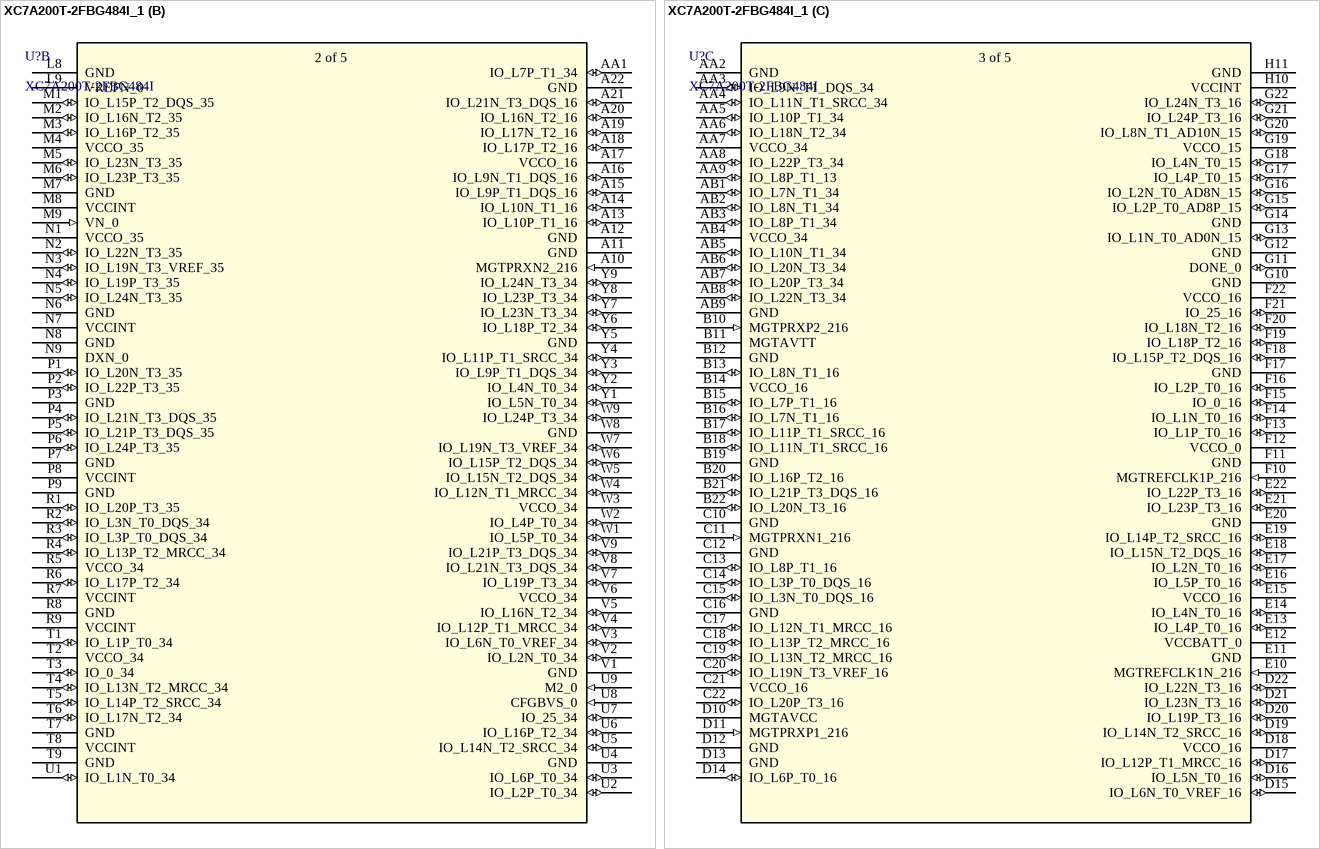
[diagram p6: symbol XC7A200T-2FBG484I_1]

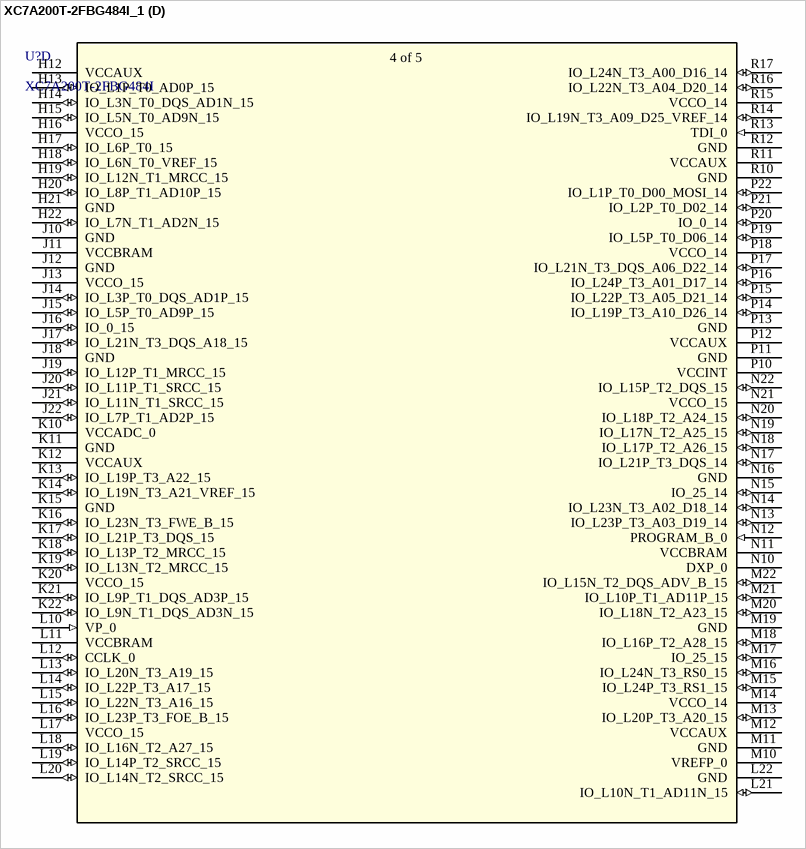
[diagram p7: symbol XC7A200T-2FBG484I_1]

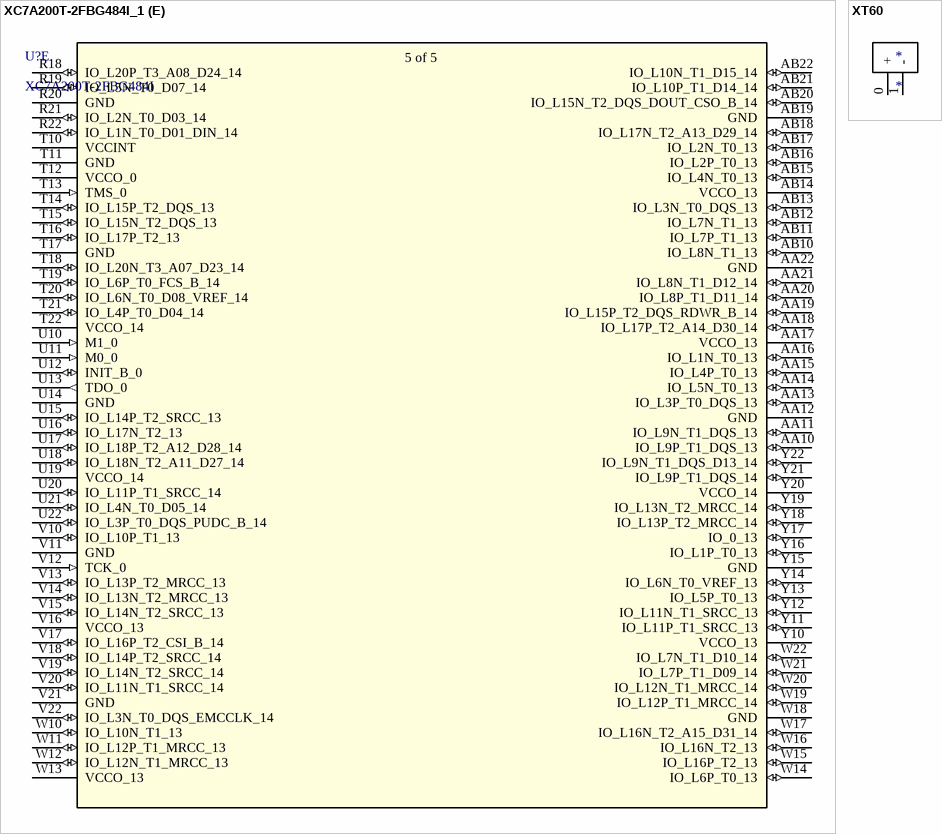
[diagram p8: symbols XC7A200T-2FBG484I_1 to XT60]

## XC7A200T-2FBG484I_1
designator U?, comment XC7A200T-2FBG484I
No Description Available; Mfr_Name: Xilinx Inc; Copyright: Copyright (C) 2022 Ultra Librarian. All rights reserved.; Manufacturer_Part_Number: XC7A200T-2FBG484I; Digi-Key_Part_Number_1: 122-1866-ND; RefDes: RefDes; Type: DEV
footprint FBG484_XIL
part A pins: A1 IO_L1N_T0_AD4N_35 (io), A2 GND, A3 GND, A4 MGTPTXN0_216 (out), A5 GND, A6 MGTPTXN2_216 (out), A7 GND, A8 MGTPRXN0_216 (in), A9 GND, B1 IO_L1P_T0_AD4P_35 (io), B2 IO_L2N_T0_AD12N_35 (io), B3 GND, B4 MGTPTXP0_216 (out), B5 MGTAVTT, B6 MGTPTXP2_216 (out), B7 MGTAVTT (power), B8 MGTPRXP0_216 (in), B9 MGTAVTT (power), C1 VCCO_35 (power), C2 IO_L2P_T0_AD12P_35 (io), C3 GND, C4 MGTAVTT (power), C5 MGTPTXN1_216 (out), C6 GND, C7 MGTPTXN3_216 (out), C8 MGTAVTT (power), C9 MGTPRXN3_216 (in), D1 IO_L3N_T0_DQS_AD5N_35 (io), D2 IO_L4N_T0_35 (io), D3 GND, D4 GND, D5 MGTPTXP1_216 (out), D6 MGTAVCC (power), D7 MGTPTXP3_216 (out), D8 GND, D9 MGTPRXP3_216 (in), E1 IO_L3P_T0_DQS_AD5P_35 (io), E2 IO_L4P_T0_35 (io), E3 IO_L6N_T0_VREF_35 (io), E4 GND, E5 GND, E6 MGTREFCLK0N_216 (in), E7 GND, E8 MGTAVCC (power), E9 GND, F1 IO_L5N_T0_AD13N_35 (io), F2 VCCO_35 (power), F3 IO_L6P_T0_35 (io), F4 IO_0_35 (io), F5 GND, F6 MGTREFCLK0P_216 (in), F7 MGTAVCC (power), F8 MGTRREF_216 (in), F9 MGTAVCC (power), G1 IO_L5P_T0_AD13P_35 (io), G2 IO_L8N_T1_AD14N_35 (io), G3 IO_L11N_T1_SRCC_35 (io), G4 IO_L12N_T1_MRCC_35 (io), G5 GND, G6 GND, G7 GND, G8 GND, G9 GND, H1 GND, H2 IO_L8P_T1_AD14P_35 (io), H3 IO_L11P_T1_SRCC_35 (io), H4 IO_L12P_T1_MRCC_35 (io), H5 IO_L10N_T1_AD15N_35 (io), H6 VCCO_35 (power), H7 GND, H8 VCCINT (power), H9 GND, J1 IO_L7N_T1_AD6N_35 (io), J2 IO_L9N_T1_DQS_AD7N_35 (io), J3 VCCO_35 (power), J4 IO_L13N_T2_MRCC_35 (io), J5 IO_L10P_T1_AD15P_35 (io), J6 IO_L17N_T2_35 (io), J7 VCCINT (power), J8 GND, J9 VCCINT (power), K1 IO_L7P_T1_AD6P_35 (io), K2 IO_L9P_T1_DQS_AD7P_35 (io), K3 IO_L14N_T2_SRCC_35 (io), K4 IO_L13P_T2_MRCC_35 (io), K5 GND, K6 IO_L17P_T2_35 (io), K7 GND, K8 VCCINT (power), K9 GNDADC_0, L1 IO_L15N_T2_DQS_35 (io), L2 GND, L3 IO_L14P_T2_SRCC_35 (io), L4 IO_L18N_T2_35 (io), L5 IO_L18P_T2_35 (io), L6 IO_25_35 (io), L7 VCCINT (power)
part B pins: A10 MGTPRXN2_216 (in), A11 GND, A12 GND, A13 IO_L10P_T1_16 (io), A14 IO_L10N_T1_16 (io), A15 IO_L9P_T1_DQS_16 (io), A16 IO_L9N_T1_DQS_16 (io), A17 VCCO_16 (power), A18 IO_L17P_T2_16 (io), A19 IO_L17N_T2_16 (io), A20 IO_L16N_T2_16 (io), A21 IO_L21N_T3_DQS_16 (io), A22 GND, AA1 IO_L7P_T1_34 (io), L8 GND, L9 VREFN_0 (power), M1 IO_L15P_T2_DQS_35 (io), M2 IO_L16N_T2_35 (io), M3 IO_L16P_T2_35 (io), M4 VCCO_35 (power), M5 IO_L23N_T3_35 (io), M6 IO_L23P_T3_35 (io), M7 GND, M8 VCCINT (power), M9 VN_0 (in), N1 VCCO_35 (power), N2 IO_L22N_T3_35 (io), N3 IO_L19N_T3_VREF_35 (io), N4 IO_L19P_T3_35 (io), N5 IO_L24N_T3_35 (io), N6 GND, N7 VCCINT (power), N8 GND, N9 DXN_0, P1 IO_L20N_T3_35 (io), P2 IO_L22P_T3_35 (io), P3 GND, P4 IO_L21N_T3_DQS_35 (io), P5 IO_L21P_T3_DQS_35 (io), P6 IO_L24P_T3_35 (io), P7 GND, P8 VCCINT (power), P9 GND, R1 IO_L20P_T3_35 (io), R2 IO_L3N_T0_DQS_34 (io), R3 IO_L3P_T0_DQS_34 (io), R4 IO_L13P_T2_MRCC_34 (io), R5 VCCO_34 (power), R6 IO_L17P_T2_34 (io), R7 VCCINT (power), R8 GND, R9 VCCINT (power), T1 IO_L1P_T0_34 (io), T2 VCCO_34 (power), T3 IO_0_34 (io), T4 IO_L13N_T2_MRCC_34 (io), T5 IO_L14P_T2_SRCC_34 (io), T6 IO_L17N_T2_34 (io), T7 GND, T8 VCCINT (power), T9 GND, U1 IO_L1N_T0_34 (io), U2 IO_L2P_T0_34 (io), U3 IO_L6P_T0_34 (io), U4 GND, U5 IO_L14N_T2_SRCC_34 (io), U6 IO_L16P_T2_34 (io), U7 IO_25_34 (io), U8 CFGBVS_0 (in), U9 M2_0 (in), V1 GND, V2 IO_L2N_T0_34 (io), V3 IO_L6N_T0_VREF_34 (io), V4 IO_L12P_T1_MRCC_34 (io), V5 IO_L16N_T2_34 (io), V6 VCCO_34 (power), V7 IO_L19P_T3_34 (io), V8 IO_L21N_T3_DQS_34 (io), V9 IO_L21P_T3_DQS_34 (io), W1 IO_L5P_T0_34 (io), W2 IO_L4P_T0_34 (io), W3 VCCO_34 (power), W4 IO_L12N_T1_MRCC_34 (io), W5 IO_L15N_T2_DQS_34 (io), W6 IO_L15P_T2_DQS_34 (io), W7 IO_L19N_T3_VREF_34 (io), W8 GND, W9 IO_L24P_T3_34 (io), Y1 IO_L5N_T0_34 (io), Y2 IO_L4N_T0_34 (io), Y3 IO_L9P_T1_DQS_34 (io), Y4 IO_L11P_T1_SRCC_34 (io), Y5 GND, Y6 IO_L18P_T2_34 (io), Y7 IO_L23N_T3_34 (io), Y8 IO_L23P_T3_34 (io), Y9 IO_L24N_T3_34 (io)
part C pins: AA2 GND, AA3 IO_L9N_T1_DQS_34 (io), AA4 IO_L11N_T1_SRCC_34 (io), AA5 IO_L10P_T1_34 (io), AA6 IO_L18N_T2_34 (io), AA7 VCCO_34 (power), AA8 IO_L22P_T3_34 (io), AA9 IO_L8P_T1_13 (io), AB1 IO_L7N_T1_34 (io), AB2 IO_L8N_T1_34 (io), AB3 IO_L8P_T1_34 (io), AB4 VCCO_34 (power), AB5 IO_L10N_T1_34 (io), AB6 IO_L20N_T3_34 (io), AB7 IO_L20P_T3_34 (io), AB8 IO_L22N_T3_34 (io), AB9 GND, B10 MGTPRXP2_216 (in), B11 MGTAVTT (power), B12 GND, B13 IO_L8N_T1_16 (io), B14 VCCO_16 (power), B15 IO_L7P_T1_16 (io), B16 IO_L7N_T1_16 (io), B17 IO_L11P_T1_SRCC_16 (io), B18 IO_L11N_T1_SRCC_16 (io), B19 GND, B20 IO_L16P_T2_16 (io), B21 IO_L21P_T3_DQS_16 (io), B22 IO_L20N_T3_16 (io), C10 GND, C11 MGTPRXN1_216 (in), C12 GND, C13 IO_L8P_T1_16 (io), C14 IO_L3P_T0_DQS_16 (io), C15 IO_L3N_T0_DQS_16 (io), C16 GND, C17 IO_L12N_T1_MRCC_16 (io), C18 IO_L13P_T2_MRCC_16 (io), C19 IO_L13N_T2_MRCC_16 (io), C20 IO_L19N_T3_VREF_16 (io), C21 VCCO_16 (power), C22 IO_L20P_T3_16 (io), D10 MGTAVCC (power), D11 MGTPRXP1_216 (in), D12 GND, D13 GND, D14 IO_L6P_T0_16 (io), D15 IO_L6N_T0_VREF_16 (io), D16 IO_L5N_T0_16 (io), D17 IO_L12P_T1_MRCC_16 (io), D18 VCCO_16 (power), D19 IO_L14N_T2_SRCC_16 (io), D20 IO_L19P_T3_16 (io), D21 IO_L23N_T3_16 (io), D22 IO_L22N_T3_16 (io), E10 MGTREFCLK1N_216 (in), E11 GND, E12 VCCBATT_0 (power), E13 IO_L4P_T0_16 (io), E14 IO_L4N_T0_16 (io), E15 VCCO_16 (power), E16 IO_L5P_T0_16 (io), E17 IO_L2N_T0_16 (io), E18 IO_L15N_T2_DQS_16 (io), E19 IO_L14P_T2_SRCC_16 (io), E20 GND, E21 IO_L23P_T3_16 (io), E22 IO_L22P_T3_16 (io), F10 MGTREFCLK1P_216 (in), F11 GND, F12 VCCO_0 (power), F13 IO_L1P_T0_16 (io), F14 IO_L1N_T0_16 (io), F15 IO_0_16 (io), F16 IO_L2P_T0_16 (io), F17 GND, F18 IO_L15P_T2_DQS_16 (io), F19 IO_L18P_T2_16 (io), F20 IO_L18N_T2_16 (io), F21 IO_25_16 (io), F22 VCCO_16 (power), G10 GND, G11 DONE_0 (io), G12 GND, G13 IO_L1N_T0_AD0N_15 (io), G14 GND, G15 IO_L2P_T0_AD8P_15 (io), G16 IO_L2N_T0_AD8N_15 (io), G17 IO_L4P_T0_15 (io), G18 IO_L4N_T0_15 (io), G19 VCCO_15 (power), G20 IO_L8N_T1_AD10N_15 (io), G21 IO_L24P_T3_16 (io), G22 IO_L24N_T3_16 (io), H10 VCCINT (power), H11 GND
part D pins: H12 VCCAUX (power), H13 IO_L1P_T0_AD0P_15 (io), H14 IO_L3N_T0_DQS_AD1N_15 (io), H15 IO_L5N_T0_AD9N_15 (io), H16 VCCO_15 (power), H17 IO_L6P_T0_15 (io), H18 IO_L6N_T0_VREF_15 (io), H19 IO_L12N_T1_MRCC_15 (io), H20 IO_L8P_T1_AD10P_15 (io), H21 GND, H22 IO_L7N_T1_AD2N_15 (io), J10 GND, J11 VCCBRAM (power), J12 GND, J13 VCCO_15 (power), J14 IO_L3P_T0_DQS_AD1P_15 (io), J15 IO_L5P_T0_AD9P_15 (io), J16 IO_0_15 (io), J17 IO_L21N_T3_DQS_A18_15 (io), J18 GND, J19 IO_L12P_T1_MRCC_15 (io), J20 IO_L11P_T1_SRCC_15 (io), J21 IO_L11N_T1_SRCC_15 (io), J22 IO_L7P_T1_AD2P_15 (io), K10 VCCADC_0 (power), K11 GND, K12 VCCAUX (power), K13 IO_L19P_T3_A22_15 (io), K14 IO_L19N_T3_A21_VREF_15 (io), K15 GND, K16 IO_L23N_T3_FWE_B_15 (io), K17 IO_L21P_T3_DQS_15 (io), K18 IO_L13P_T2_MRCC_15 (io), K19 IO_L13N_T2_MRCC_15 (io), K20 VCCO_15 (power), K21 IO_L9P_T1_DQS_AD3P_15 (io), K22 IO_L9N_T1_DQS_AD3N_15 (io), L10 VP_0 (in), L11 VCCBRAM (power), L12 CCLK_0 (io), L13 IO_L20N_T3_A19_15 (io), L14 IO_L22P_T3_A17_15 (io), L15 IO_L22N_T3_A16_15 (io), L16 IO_L23P_T3_FOE_B_15 (io), L17 VCCO_15 (power), L18 IO_L16N_T2_A27_15 (io), L19 IO_L14P_T2_SRCC_15 (io), L20 IO_L14N_T2_SRCC_15 (io), L21 IO_L10N_T1_AD11N_15 (io), L22 GND, M10 VREFP_0 (power), M11 GND, M12 VCCAUX (power), M13 IO_L20P_T3_A20_15 (io), M14 VCCO_14 (power), M15 IO_L24P_T3_RS1_15 (io), M16 IO_L24N_T3_RS0_15 (io), M17 IO_25_15 (io), M18 IO_L16P_T2_A28_15 (io), M19 GND, M20 IO_L18N_T2_A23_15 (io), M21 IO_L10P_T1_AD11P_15 (io), M22 IO_L15N_T2_DQS_ADV_B_15 (io), N10 DXP_0, N11 VCCBRAM (power), N12 PROGRAM_B_0 (in), N13 IO_L23P_T3_A03_D19_14 (io), N14 IO_L23N_T3_A02_D18_14 (io), N15 IO_25_14 (io), N16 GND, N17 IO_L21P_T3_DQS_14 (io), N18 IO_L17P_T2_A26_15 (io), N19 IO_L17N_T2_A25_15 (io), N20 IO_L18P_T2_A24_15 (io), N21 VCCO_15 (power), N22 IO_L15P_T2_DQS_15 (io), P10 VCCINT (power), P11 GND, P12 VCCAUX (power), P13 GND, P14 IO_L19P_T3_A10_D26_14 (io), P15 IO_L22P_T3_A05_D21_14 (io), P16 IO_L24P_T3_A01_D17_14 (io), P17 IO_L21N_T3_DQS_A06_D22_14 (io), P18 VCCO_14 (power), P19 IO_L5P_T0_D06_14 (io), P20 IO_0_14 (io), P21 IO_L2P_T0_D02_14 (io), P22 IO_L1P_T0_D00_MOSI_14 (io), R10 GND, R11 VCCAUX (power), R12 GND, R13 TDI_0 (in), R14 IO_L19N_T3_A09_D25_VREF_14 (io), R15 VCCO_14 (power), R16 IO_L22N_T3_A04_D20_14 (io), R17 IO_L24N_T3_A00_D16_14 (io)
part E pins: AA10 IO_L9P_T1_DQS_13 (io), AA11 IO_L9N_T1_DQS_13 (io), AA12 GND, AA13 IO_L3P_T0_DQS_13 (io), AA14 IO_L5N_T0_13 (io), AA15 IO_L4P_T0_13 (io), AA16 IO_L1N_T0_13 (io), AA17 VCCO_13 (power), AA18 IO_L17P_T2_A14_D30_14 (io), AA19 IO_L15P_T2_DQS_RDWR_B_14 (io), AA20 IO_L8P_T1_D11_14 (io), AA21 IO_L8N_T1_D12_14 (io), AA22 GND, AB10 IO_L8N_T1_13 (io), AB11 IO_L7P_T1_13 (io), AB12 IO_L7N_T1_13 (io), AB13 IO_L3N_T0_DQS_13 (io), AB14 VCCO_13 (power), AB15 IO_L4N_T0_13 (io), AB16 IO_L2P_T0_13 (io), AB17 IO_L2N_T0_13 (io), AB18 IO_L17N_T2_A13_D29_14 (io), AB19 GND, AB20 IO_L15N_T2_DQS_DOUT_CSO_B_14 (io), AB21 IO_L10P_T1_D14_14 (io), AB22 IO_L10N_T1_D15_14 (io), R18 IO_L20P_T3_A08_D24_14 (io), R19 IO_L5N_T0_D07_14 (io), R20 GND, R21 IO_L2N_T0_D03_14 (io), R22 IO_L1N_T0_D01_DIN_14 (io), T10 VCCINT (power), T11 GND, T12 VCCO_0 (power), T13 TMS_0 (in), T14 IO_L15P_T2_DQS_13 (io), T15 IO_L15N_T2_DQS_13 (io), T16 IO_L17P_T2_13 (io), T17 GND, T18 IO_L20N_T3_A07_D23_14 (io), T19 IO_L6P_T0_FCS_B_14 (io), T20 IO_L6N_T0_D08_VREF_14 (io), T21 IO_L4P_T0_D04_14 (io), T22 VCCO_14 (power), U10 M1_0 (in), U11 M0_0 (in), U12 INIT_B_0 (io), U13 TDO_0 (out), U14 GND, U15 IO_L14P_T2_SRCC_13 (io), U16 IO_L17N_T2_13 (io), U17 IO_L18P_T2_A12_D28_14 (io), U18 IO_L18N_T2_A11_D27_14 (io), U19 VCCO_14 (power), U20 IO_L11P_T1_SRCC_14 (io), U21 IO_L4N_T0_D05_14 (io), U22 IO_L3P_T0_DQS_PUDC_B_14 (io), V10 IO_L10P_T1_13 (io), V11 GND, V12 TCK_0 (in), V13 IO_L13P_T2_MRCC_13 (io), V14 IO_L13N_T2_MRCC_13 (io), V15 IO_L14N_T2_SRCC_13 (io), V16 VCCO_13 (power), V17 IO_L16P_T2_CSI_B_14 (io), V18 IO_L14P_T2_SRCC_14 (io), V19 IO_L14N_T2_SRCC_14 (io), V20 IO_L11N_T1_SRCC_14 (io), V21 GND, V22 IO_L3N_T0_DQS_EMCCLK_14 (io), W10 IO_L10N_T1_13 (io), W11 IO_L12P_T1_MRCC_13 (io), W12 IO_L12N_T1_MRCC_13 (io), W13 VCCO_13 (power), W14 IO_L6P_T0_13 (io), W15 IO_L16P_T2_13 (io), W16 IO_L16N_T2_13 (io), W17 IO_L16N_T2_A15_D31_14 (io), W18 GND, W19 IO_L12P_T1_MRCC_14 (io), W20 IO_L12N_T1_MRCC_14 (io), W21 IO_L7P_T1_D09_14 (io), W22 IO_L7N_T1_D10_14 (io), Y10 VCCO_13 (power), Y11 IO_L11P_T1_SRCC_13 (io), Y12 IO_L11N_T1_SRCC_13 (io), Y13 IO_L5P_T0_13 (io), Y14 IO_L6N_T0_VREF_13 (io), Y15 GND, Y16 IO_L1P_T0_13 (io), Y17 IO_0_13 (io), Y18 IO_L13P_T2_MRCC_14 (io), Y19 IO_L13N_T2_MRCC_14 (io), Y20 VCCO_14 (power), Y21 IO_L9P_T1_DQS_14 (io), Y22 IO_L9N_T1_DQS_D13_14 (io)
part A text: 1 of 5
part B text: 2 of 5
part C text: 3 of 5
part D text: 4 of 5
part E text: 5 of 5

## XT60
designator *
footprint XT60
pins: 0 +, 1 -